# Altium integrated library Renesas Microprocessor SuperH.IntLib: 433 symbols (part 59 of 62)
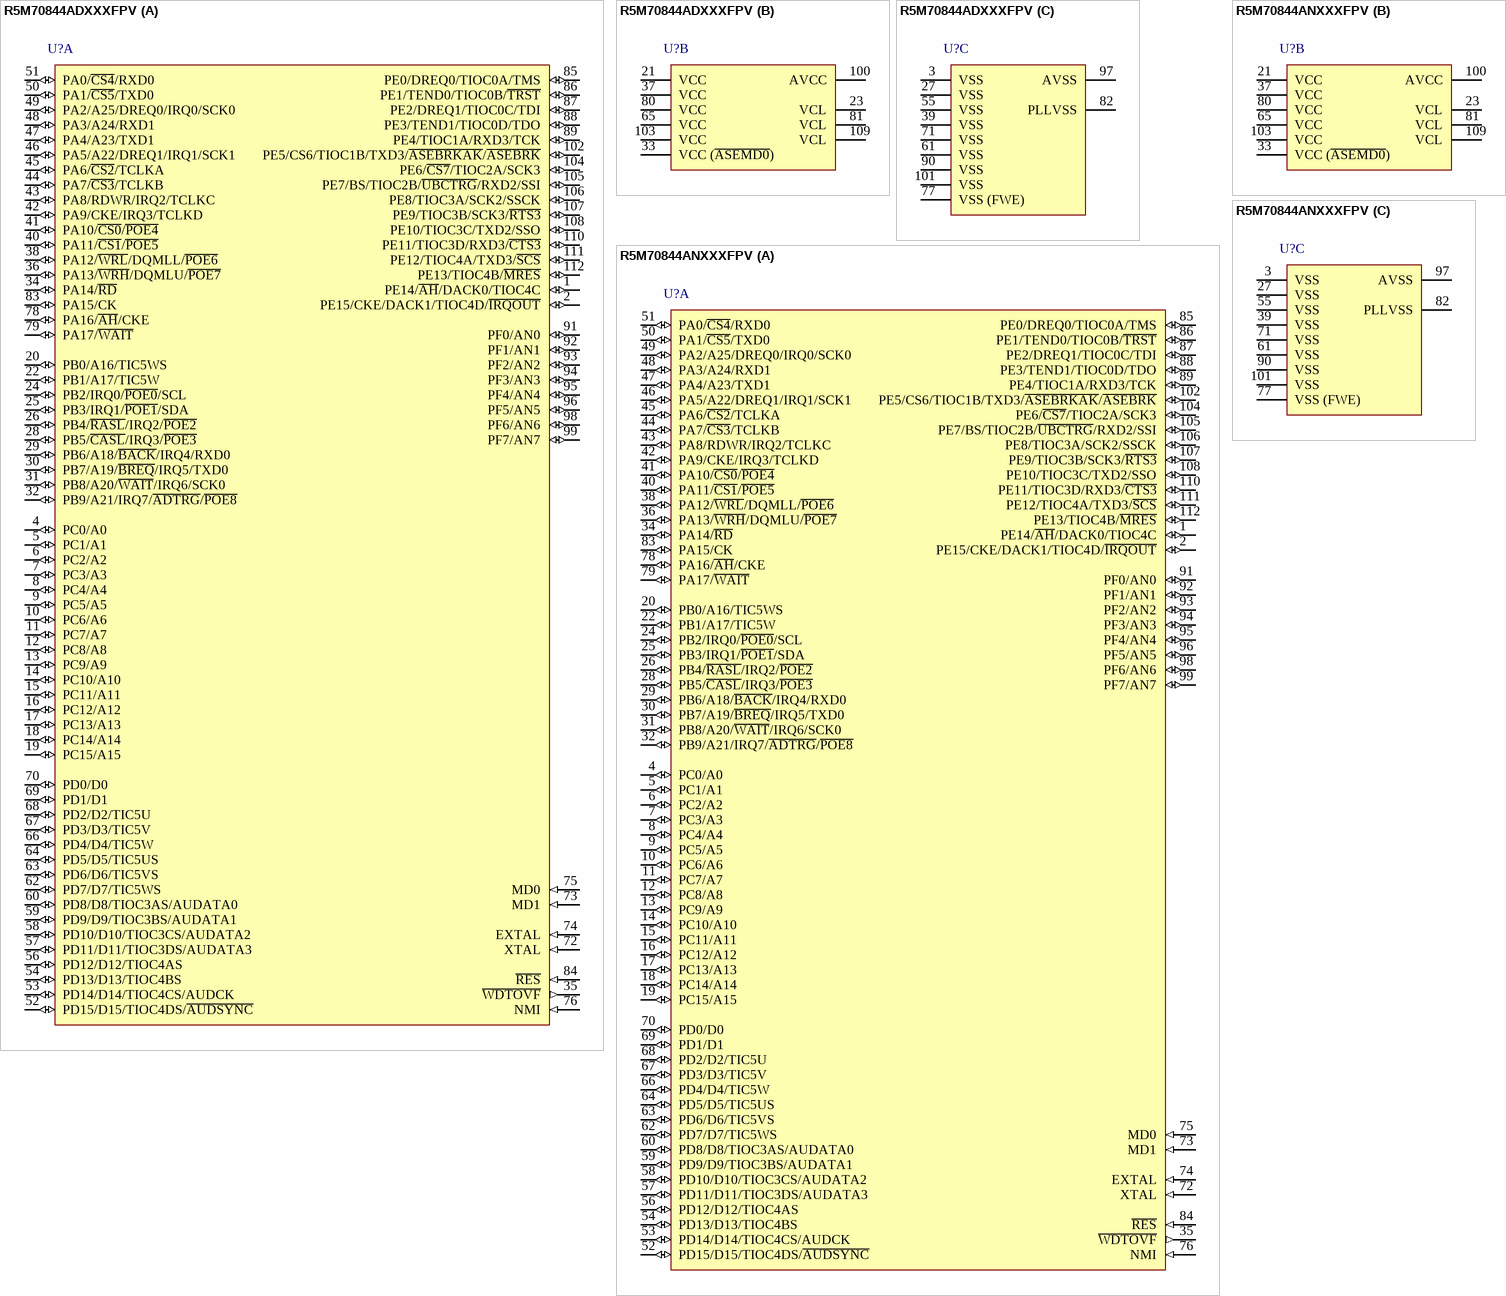
[diagram p315: symbols R5M70844ADXXXFPV to R5M70844ANXXXFPV]

## R5M70844ADXXXFPV
designator U?
32-Bit RISC Microcomputer, SH7080 Series, SH-2 core, 80MHz, 256K ROM, 16K RAM, PLQP0112JA-A (FP-112EV) Package, -40 to 85°C; Published: 28-Aug-2009; LatestRevisionDate: 15-Feb-2010; LatestRevisionNote: Updated to datasheet revision 4.00 Dec-2009.; DatasheetVersion: Rev.4.00, Dec-2009; PackageVersion: Sep-2005; PackageReference: PLQP0112JA-A; Publisher: Altium Limited; PackageDescription: 112-Pin Plastic Low Profile QFP, 20 x 20 x 1.4 mm Body, 0.65 mm Pitch; Code_JEITA: P-LQFP112-20x20-0.65; ComponentLink1Description: Manufacturer Link; ComponentLink1URL: http://www.renesas.com/fmwk.jsp?cnt=sh7080_root.jsp&fp=/products/mpumcu/superh_family/sh7080_series/sh7080_group/; ComponentLink2Description: Datasheet; ComponentLink2URL: http://documentation.renesas.com/eng/products/mpumcu/rej09b0181_sh7080.pdf; ComponentLink3Description: Packaging Specification; ComponentLink3URL: http://sg.renesas.com/media/products/common_info/package/pdf/ic/code/plqp0112ja_a.pdf
footprint PLQP0112JA-A_N (QFP, 112-Leads, Body 20x20mm, Pitch 0.65mm, IPC Medium Density)
footprint PLQP0112JA-A_L (QFP, 112-Leads, Body 20x20mm, Pitch 0.65mm, IPC High Density)
footprint PLQP0112JA-A_M (QFP, 112-Leads, Body 20x20mm, Pitch 0.65mm, IPC Low Density)
part A pins: 1 PE14/~{AH}/DACK0/TIOC4C (io), 2 PE15/CKE/DACK1/TIOC4D/~{IRQOUT} (io), 4 PC0/A0 (io), 5 PC1/A1 (io), 6 PC2/A2 (io), 7 PC3/A3 (io), 8 PC4/A4 (io), 9 PC5/A5 (io), 10 PC6/A6 (io), 11 PC7/A7 (io), 12 PC8/A8 (io), 13 PC9/A9 (io), 14 PC10/A10 (io), 15 PC11/A11 (io), 16 PC12/A12 (io), 17 PC13/A13 (io), 18 PC14/A14 (io), 19 PC15/A15 (io), 20 PB0/A16/TIC5WS (io), 22 PB1/A17/TIC5W (io), 24 PB2/IRQ0/~{POE0}/SCL (io), 25 PB3/IRQ1/~{POE1}/SDA (io), 26 PB4/~{RASL}/IRQ2/~{POE2} (io), 28 PB5/~{CASL}/IRQ3/~{POE3} (io), 29 PB6/A18/~{BACK}/IRQ4/RXD0 (io), 30 PB7/A19/~{BREQ}/IRQ5/TXD0 (io), 31 PB8/A20/~{WAIT}/IRQ6/SCK0 (io), 32 PB9/A21/IRQ7/~{ADTRG}/~{POE8} (io), 34 PA14/~{RD} (io), 35 ~{WDTOVF} (out), 36 PA13/~{WRH}/DQMLU/~{POE7} (io), 38 PA12/~{WRL}/DQMLL/~{POE6} (io), 40 PA11/~{CS1}/~{POE5} (io), 41 PA10/~{CS0}/~{POE4} (io), 42 PA9/CKE/IRQ3/TCLKD (io), 43 PA8/RDWR/IRQ2/TCLKC (io), 44 PA7/~{CS3}/TCLKB (io), 45 PA6/~{CS2}/TCLKA (io), 46 PA5/A22/DREQ1/IRQ1/SCK1 (io), 47 PA4/A23/TXD1 (io), 48 PA3/A24/RXD1 (io), 49 PA2/A25/DREQ0/IRQ0/SCK0 (io), 50 PA1/~{CS5}/TXD0 (io), 51 PA0/~{CS4}/RXD0 (io), 52 PD15/D15/TIOC4DS/~{AUDSYNC} (io), 53 PD14/D14/TIOC4CS/AUDCK (io), 54 PD13/D13/TIOC4BS (io), 56 PD12/D12/TIOC4AS (io), 57 PD11/D11/TIOC3DS/AUDATA3 (io), 58 PD10/D10/TIOC3CS/AUDATA2 (io), 59 PD9/D9/TIOC3BS/AUDATA1 (io), 60 PD8/D8/TIOC3AS/AUDATA0 (io), 62 PD7/D7/TIC5WS (io), 63 PD6/D6/TIC5VS (io), 64 PD5/D5/TIC5US (io), 66 PD4/D4/TIC5W (io), 67 PD3/D3/TIC5V (io), 68 PD2/D2/TIC5U (io), 69 PD1/D1 (io), 70 PD0/D0 (io), 72 XTAL (in), 73 MD1 (in), 74 EXTAL (in), 75 MD0 (in), 76 NMI (in), 78 PA16/~{AH}/CKE (io), 79 PA17/~{WAIT} (io), 83 PA15/CK (io), 84 ~{RES} (in), 85 PE0/DREQ0/TIOC0A/TMS (io), 86 PE1/TEND0/TIOC0B/~{TRST} (io), 87 PE2/DREQ1/TIOC0C/TDI (io), 88 PE3/TEND1/TIOC0D/TDO (io), 89 PE4/TIOC1A/RXD3/TCK (io), 91 PF0/AN0 (io), 92 PF1/AN1 (io), 93 PF2/AN2 (io), 94 PF3/AN3 (io), 95 PF4/AN4 (io), 96 PF5/AN5 (io), 98 PF6/AN6 (io), 99 PF7/AN7 (io), 102 PE5/CS6/TIOC1B/TXD3/~{ASEBRKAK}/~{ASEBRK} (io), 104 PE6/~{CS7}/TIOC2A/SCK3 (io), 105 PE7/BS/TIOC2B/~{UBCTRG}/RXD2/SSI (io), 106 PE8/TIOC3A/SCK2/SSCK (io), 107 PE9/TIOC3B/SCK3/~{RTS3} (io), 108 PE10/TIOC3C/TXD2/SSO (io), 110 PE11/TIOC3D/RXD3/~{CTS3} (io), 111 PE12/TIOC4A/TXD3/~{SCS} (io), 112 PE13/TIOC4B/~{MRES} (io)
part B pins: 21 VCC (power), 23 VCL (power), 33 VCC (~{ASEMD0}) (power), 37 VCC (power), 65 VCC (power), 80 VCC (power), 81 VCL (power), 100 AVCC (power), 103 VCC (power), 109 VCL (power)
part C pins: 3 VSS (power), 27 VSS (power), 39 VSS (power), 55 VSS (power), 61 VSS (power), 71 VSS (power), 77 VSS (FWE) (power), 82 PLLVSS (power), 90 VSS (power), 97 AVSS (power), 101 VSS (power)

## R5M70844ANXXXFPV
designator U?
32-Bit RISC Microcomputer, SH7080 Series, SH-2 core, 80MHz, 256K ROM, 16K RAM, PLQP0112JA-A (FP-112EV) Package, -20 to 85°C; Published: 28-Aug-2009; LatestRevisionDate: 15-Feb-2010; LatestRevisionNote: Updated to datasheet revision 4.00 Dec-2009.; DatasheetVersion: Rev.4.00, Dec-2009; PackageVersion: Sep-2005; PackageReference: PLQP0112JA-A; Publisher: Altium Limited; PackageDescription: 112-Pin Plastic Low Profile QFP, 20 x 20 x 1.4 mm Body, 0.65 mm Pitch; Code_JEITA: P-LQFP112-20x20-0.65; ComponentLink1Description: Manufacturer Link; ComponentLink1URL: http://www.renesas.com/fmwk.jsp?cnt=sh7080_root.jsp&fp=/products/mpumcu/superh_family/sh7080_series/sh7080_group/; ComponentLink2Description: Datasheet; ComponentLink2URL: http://documentation.renesas.com/eng/products/mpumcu/rej09b0181_sh7080.pdf; ComponentLink3Description: Packaging Specification; ComponentLink3URL: http://sg.renesas.com/media/products/common_info/package/pdf/ic/code/plqp0112ja_a.pdf
footprint PLQP0112JA-A_N (QFP, 112-Leads, Body 20x20mm, Pitch 0.65mm, IPC Medium Density)
footprint PLQP0112JA-A_L (QFP, 112-Leads, Body 20x20mm, Pitch 0.65mm, IPC High Density)
footprint PLQP0112JA-A_M (QFP, 112-Leads, Body 20x20mm, Pitch 0.65mm, IPC Low Density)
part A pins: 1 PE14/~{AH}/DACK0/TIOC4C (io), 2 PE15/CKE/DACK1/TIOC4D/~{IRQOUT} (io), 4 PC0/A0 (io), 5 PC1/A1 (io), 6 PC2/A2 (io), 7 PC3/A3 (io), 8 PC4/A4 (io), 9 PC5/A5 (io), 10 PC6/A6 (io), 11 PC7/A7 (io), 12 PC8/A8 (io), 13 PC9/A9 (io), 14 PC10/A10 (io), 15 PC11/A11 (io), 16 PC12/A12 (io), 17 PC13/A13 (io), 18 PC14/A14 (io), 19 PC15/A15 (io), 20 PB0/A16/TIC5WS (io), 22 PB1/A17/TIC5W (io), 24 PB2/IRQ0/~{POE0}/SCL (io), 25 PB3/IRQ1/~{POE1}/SDA (io), 26 PB4/~{RASL}/IRQ2/~{POE2} (io), 28 PB5/~{CASL}/IRQ3/~{POE3} (io), 29 PB6/A18/~{BACK}/IRQ4/RXD0 (io), 30 PB7/A19/~{BREQ}/IRQ5/TXD0 (io), 31 PB8/A20/~{WAIT}/IRQ6/SCK0 (io), 32 PB9/A21/IRQ7/~{ADTRG}/~{POE8} (io), 34 PA14/~{RD} (io), 35 ~{WDTOVF} (out), 36 PA13/~{WRH}/DQMLU/~{POE7} (io), 38 PA12/~{WRL}/DQMLL/~{POE6} (io), 40 PA11/~{CS1}/~{POE5} (io), 41 PA10/~{CS0}/~{POE4} (io), 42 PA9/CKE/IRQ3/TCLKD (io), 43 PA8/RDWR/IRQ2/TCLKC (io), 44 PA7/~{CS3}/TCLKB (io), 45 PA6/~{CS2}/TCLKA (io), 46 PA5/A22/DREQ1/IRQ1/SCK1 (io), 47 PA4/A23/TXD1 (io), 48 PA3/A24/RXD1 (io), 49 PA2/A25/DREQ0/IRQ0/SCK0 (io), 50 PA1/~{CS5}/TXD0 (io), 51 PA0/~{CS4}/RXD0 (io), 52 PD15/D15/TIOC4DS/~{AUDSYNC} (io), 53 PD14/D14/TIOC4CS/AUDCK (io), 54 PD13/D13/TIOC4BS (io), 56 PD12/D12/TIOC4AS (io), 57 PD11/D11/TIOC3DS/AUDATA3 (io), 58 PD10/D10/TIOC3CS/AUDATA2 (io), 59 PD9/D9/TIOC3BS/AUDATA1 (io), 60 PD8/D8/TIOC3AS/AUDATA0 (io), 62 PD7/D7/TIC5WS (io), 63 PD6/D6/TIC5VS (io), 64 PD5/D5/TIC5US (io), 66 PD4/D4/TIC5W (io), 67 PD3/D3/TIC5V (io), 68 PD2/D2/TIC5U (io), 69 PD1/D1 (io), 70 PD0/D0 (io), 72 XTAL (in), 73 MD1 (in), 74 EXTAL (in), 75 MD0 (in), 76 NMI (in), 78 PA16/~{AH}/CKE (io), 79 PA17/~{WAIT} (io), 83 PA15/CK (io), 84 ~{RES} (in), 85 PE0/DREQ0/TIOC0A/TMS (io), 86 PE1/TEND0/TIOC0B/~{TRST} (io), 87 PE2/DREQ1/TIOC0C/TDI (io), 88 PE3/TEND1/TIOC0D/TDO (io), 89 PE4/TIOC1A/RXD3/TCK (io), 91 PF0/AN0 (io), 92 PF1/AN1 (io), 93 PF2/AN2 (io), 94 PF3/AN3 (io), 95 PF4/AN4 (io), 96 PF5/AN5 (io), 98 PF6/AN6 (io), 99 PF7/AN7 (io), 102 PE5/CS6/TIOC1B/TXD3/~{ASEBRKAK}/~{ASEBRK} (io), 104 PE6/~{CS7}/TIOC2A/SCK3 (io), 105 PE7/BS/TIOC2B/~{UBCTRG}/RXD2/SSI (io), 106 PE8/TIOC3A/SCK2/SSCK (io), 107 PE9/TIOC3B/SCK3/~{RTS3} (io), 108 PE10/TIOC3C/TXD2/SSO (io), 110 PE11/TIOC3D/RXD3/~{CTS3} (io), 111 PE12/TIOC4A/TXD3/~{SCS} (io), 112 PE13/TIOC4B/~{MRES} (io)
part B pins: 21 VCC (power), 23 VCL (power), 33 VCC (~{ASEMD0}) (power), 37 VCC (power), 65 VCC (power), 80 VCC (power), 81 VCL (power), 100 AVCC (power), 103 VCC (power), 109 VCL (power)
part C pins: 3 VSS (power), 27 VSS (power), 39 VSS (power), 55 VSS (power), 61 VSS (power), 71 VSS (power), 77 VSS (FWE) (power), 82 PLLVSS (power), 90 VSS (power), 97 AVSS (power), 101 VSS (power)

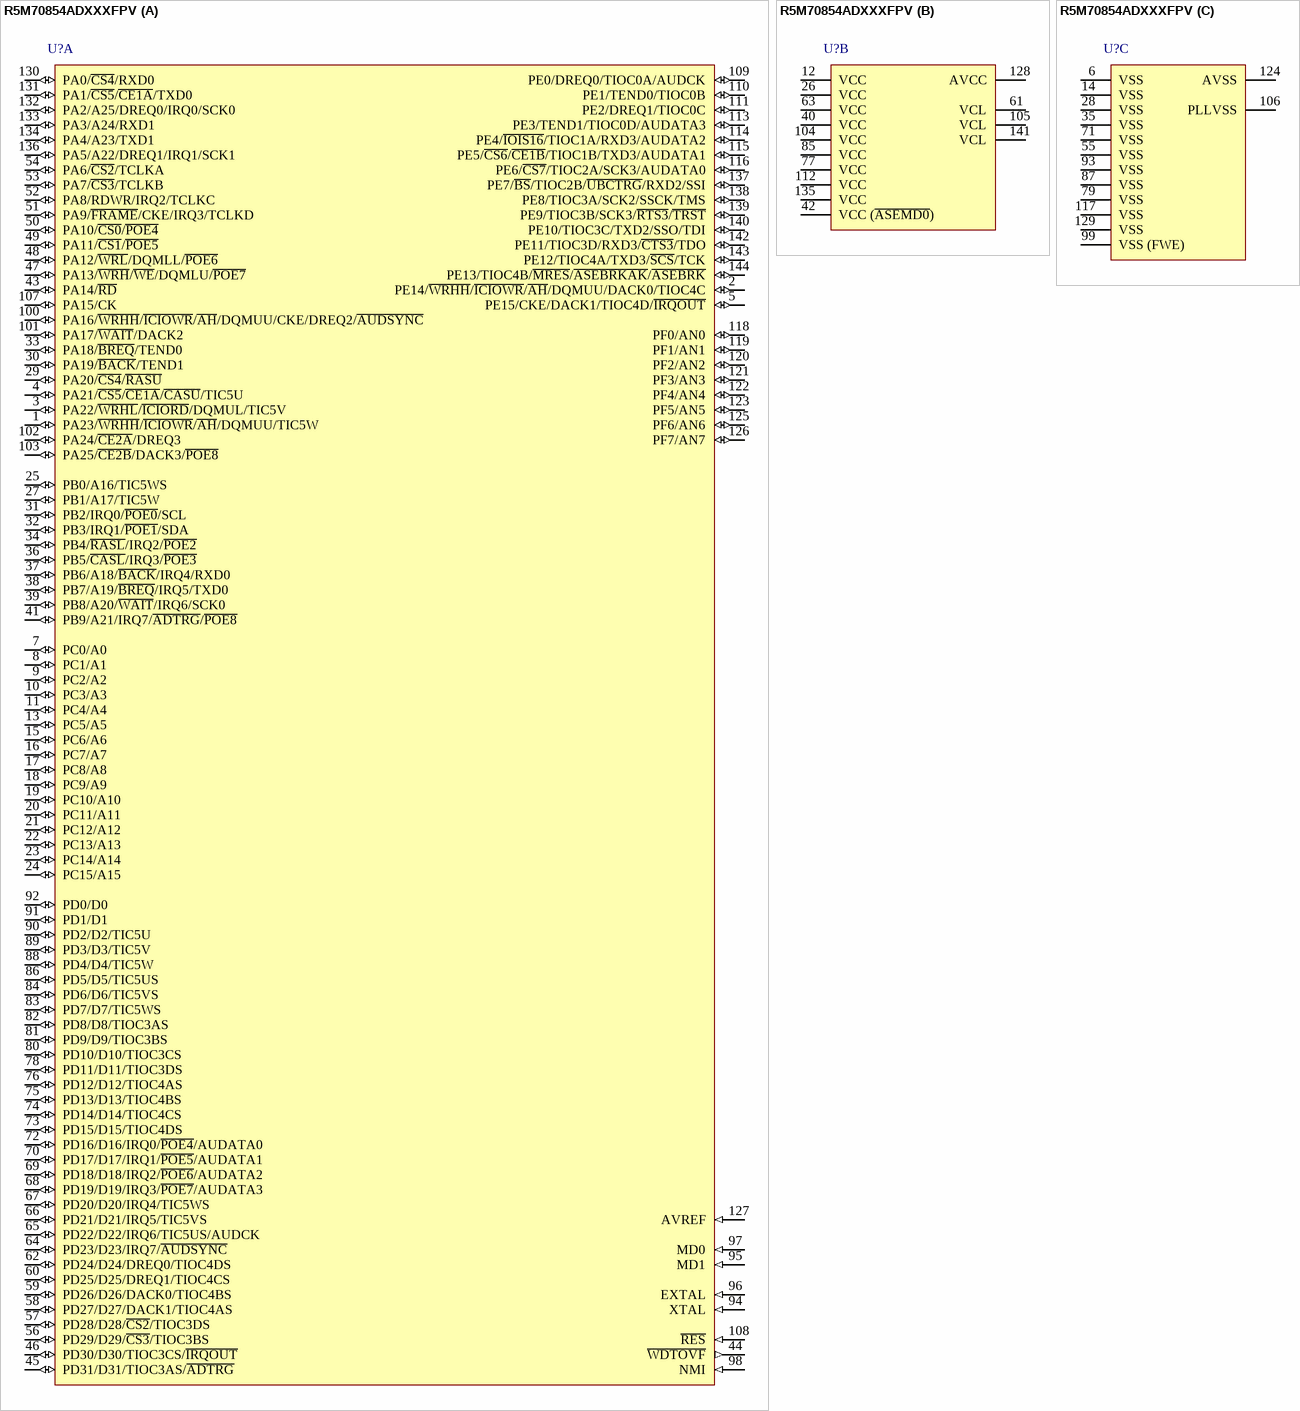
[diagram p197: symbol R5M70854ADXXXFPV]

## R5M70854ADXXXFPV
designator U?
32-Bit RISC Microcomputer, SH7080 Series, SH-2 core, 80MHz, 256K ROM, 16K RAM, 144-pin PLQFP, -40 to 85°C; Published: 28-Aug-2009; LatestRevisionDate: 15-Feb-2010; LatestRevisionNote: Updated to datasheet revision 4.00 Dec-2009.; DatasheetVersion: Rev.4.00, Dec-2009; PackageVersion: Sep-2005; PackageReference: PLQP0144KA-A; Publisher: Altium Limited; PackageDescription: 144-Pin Plastic Low Profile QFP, 20 x 20 x 1.4 mm Body, 0.5 mm Pitch; Code_JEITA: P-LQFP144-20x20-0.50; Code_IPC: SQFP50P2200X2200-144; ComponentLink1Description: Manufacturer Link; ComponentLink1URL: http://www.renesas.com/fmwk.jsp?cnt=sh7080_root.jsp&fp=/products/mpumcu/superh_family/sh7080_series/sh7080_group/; ComponentLink2Description: Datasheet; ComponentLink2URL: http://documentation.renesas.com/eng/products/mpumcu/rej09b0181_sh7080.pdf; ComponentLink3Description: Packaging Specification; ComponentLink3URL: http://sg.renesas.com/media/products/common_info/package/pdf/ic/code/plqp0144ka_a.pdf
footprint PLQP0144KA-A_N (Shrink QFP, 144-Leads, Body 20x20mm, Pitch 0.5mm, IPC Medium Density)
footprint PLQP0144KA-A_L (Shrink QFP, 144-Leads, Body 20x20mm, Pitch 0.5mm, IPC High Density)
footprint PLQP0144KA-A_M (Shrink QFP, 144-Leads, Body 20x20mm, Pitch 0.5mm, IPC Low Density)
part A pins: 1 PA23/~{WRHH}/~{ICIOWR}/~{AH}/DQMUU/TIC5W (io), 2 PE14/~{WRHH}/~{ICIOWR}/~{AH}/DQMUU/DACK0/TIOC4C (io), 3 PA22/~{WRHL}/~{ICIORD}/DQMUL/TIC5V (io), 4 PA21/~{CS5}/~{CE1A}/~{CASU}/TIC5U (io), 5 PE15/CKE/DACK1/TIOC4D/~{IRQOUT} (io), 7 PC0/A0 (io), 8 PC1/A1 (io), 9 PC2/A2 (io), 10 PC3/A3 (io), 11 PC4/A4 (io), 13 PC5/A5 (io), 15 PC6/A6 (io), 16 PC7/A7 (io), 17 PC8/A8 (io), 18 PC9/A9 (io), 19 PC10/A10 (io), 20 PC11/A11 (io), 21 PC12/A12 (io), 22 PC13/A13 (io), 23 PC14/A14 (io), 24 PC15/A15 (io), 25 PB0/A16/TIC5WS (io), 27 PB1/A17/TIC5W (io), 29 PA20/~{CS4}/~{RASU} (io), 30 PA19/~{BACK}/TEND1 (io), 31 PB2/IRQ0/~{POE0}/SCL (io), 32 PB3/IRQ1/~{POE1}/SDA (io), 33 PA18/~{BREQ}/TEND0 (io), 34 PB4/~{RASL}/IRQ2/~{POE2} (io), 36 PB5/~{CASL}/IRQ3/~{POE3} (io), 37 PB6/A18/~{BACK}/IRQ4/RXD0 (io), 38 PB7/A19/~{BREQ}/IRQ5/TXD0 (io), 39 PB8/A20/~{WAIT}/IRQ6/SCK0 (io), 41 PB9/A21/IRQ7/~{ADTRG}/~{POE8} (io), 43 PA14/~{RD} (io), 44 ~{WDTOVF} (out), 45 PD31/D31/TIOC3AS/~{ADTRG} (io), 46 PD30/D30/TIOC3CS/~{IRQOUT} (io), 47 PA13/~{WRH}/~{WE}/DQMLU/~{POE7} (io), 48 PA12/~{WRL}/DQMLL/~{POE6} (io), 49 PA11/~{CS1}/~{POE5} (io), 50 PA10/~{CS0}/~{POE4} (io), 51 PA9/~{FRAME}/CKE/IRQ3/TCLKD (io), 52 PA8/RDWR/IRQ2/TCLKC (io), 53 PA7/~{CS3}/TCLKB (io), 54 PA6/~{CS2}/TCLKA (io), 56 PD29/D29/~{CS3}/TIOC3BS (io), 57 PD28/D28/~{CS2}/TIOC3DS (io), 58 PD27/D27/DACK1/TIOC4AS (io), 59 PD26/D26/DACK0/TIOC4BS (io), 60 PD25/D25/DREQ1/TIOC4CS (io), 62 PD24/D24/DREQ0/TIOC4DS (io), 64 PD23/D23/IRQ7/~{AUDSYNC} (io), 65 PD22/D22/IRQ6/TIC5US/AUDCK (io), 66 PD21/D21/IRQ5/TIC5VS (io), 67 PD20/D20/IRQ4/TIC5WS (io), 68 PD19/D19/IRQ3/~{POE7}/AUDATA3 (io), 69 PD18/D18/IRQ2/~{POE6}/AUDATA2 (io), 70 PD17/D17/IRQ1/~{POE5}/AUDATA1 (io), 72 PD16/D16/IRQ0/~{POE4}/AUDATA0 (io), 73 PD15/D15/TIOC4DS (io), 74 PD14/D14/TIOC4CS (io), 75 PD13/D13/TIOC4BS (io), 76 PD12/D12/TIOC4AS (io), 78 PD11/D11/TIOC3DS (io), 80 PD10/D10/TIOC3CS (io), 81 PD9/D9/TIOC3BS (io), 82 PD8/D8/TIOC3AS (io), 83 PD7/D7/TIC5WS (io), 84 PD6/D6/TIC5VS (io), 86 PD5/D5/TIC5US (io), 88 PD4/D4/TIC5W (io), 89 PD3/D3/TIC5V (io), 90 PD2/D2/TIC5U (io), 91 PD1/D1 (io), 92 PD0/D0 (io), 94 XTAL (in), 95 MD1 (in), 96 EXTAL (in), 97 MD0 (in), 98 NMI (in), 100 PA16/~{WRHH}/~{ICIOWR}/~{AH}/DQMUU/CKE/DREQ2/~{AUDSYNC} (io), 101 PA17/~{WAIT}/DACK2 (io), 102 PA24/~{CE2A}/DREQ3 (io), 103 PA25/~{CE2B}/DACK3/~{POE8} (io), 107 PA15/CK (io), 108 ~{RES} (in), 109 PE0/DREQ0/TIOC0A/AUDCK (io), 110 PE1/TEND0/TIOC0B (io), 111 PE2/DREQ1/TIOC0C (io), 113 PE3/TEND1/TIOC0D/AUDATA3 (io), 114 PE4/~{IOIS16}/TIOC1A/RXD3/AUDATA2 (io), 115 PE5/~{CS6}/~{CE1B}/TIOC1B/TXD3/AUDATA1 (io), 116 PE6/~{CS7}/TIOC2A/SCK3/AUDATA0 (io), 118 PF0/AN0 (io), 119 PF1/AN1 (io), 120 PF2/AN2 (io), 121 PF3/AN3 (io), 122 PF4/AN4 (io), 123 PF5/AN5 (io), 125 PF6/AN6 (io), 126 PF7/AN7 (io), 127 AVREF (in), 130 PA0/~{CS4}/RXD0 (io), 131 PA1/~{CS5}/~{CE1A}/TXD0 (io), 132 PA2/A25/DREQ0/IRQ0/SCK0 (io), 133 PA3/A24/RXD1 (io), 134 PA4/A23/TXD1 (io), 136 PA5/A22/DREQ1/IRQ1/SCK1 (io), 137 PE7/~{BS}/TIOC2B/~{UBCTRG}/RXD2/SSI (io), 138 PE8/TIOC3A/SCK2/SSCK/TMS (io), 139 PE9/TIOC3B/SCK3/~{RTS3}/~{TRST} (io), 140 PE10/TIOC3C/TXD2/SSO/TDI (io), 142 PE11/TIOC3D/RXD3/~{CTS3}/TDO (io), 143 PE12/TIOC4A/TXD3/~{SCS}/TCK (io), 144 PE13/TIOC4B/~{MRES}/~{ASEBRKAK}/~{ASEBRK} (io)
part B pins: 12 VCC (power), 26 VCC (power), 40 VCC (power), 42 VCC (~{ASEMD0}) (power), 61 VCL (power), 63 VCC (power), 77 VCC (power), 85 VCC (power), 104 VCC (power), 105 VCL (power), 112 VCC (power), 128 AVCC (power), 135 VCC (power), 141 VCL (power)
part C pins: 6 VSS (power), 14 VSS (power), 28 VSS (power), 35 VSS (power), 55 VSS (power), 71 VSS (power), 79 VSS (power), 87 VSS (power), 93 VSS (power), 99 VSS (FWE) (power), 106 PLLVSS (power), 117 VSS (power), 124 AVSS (power), 129 VSS (power)

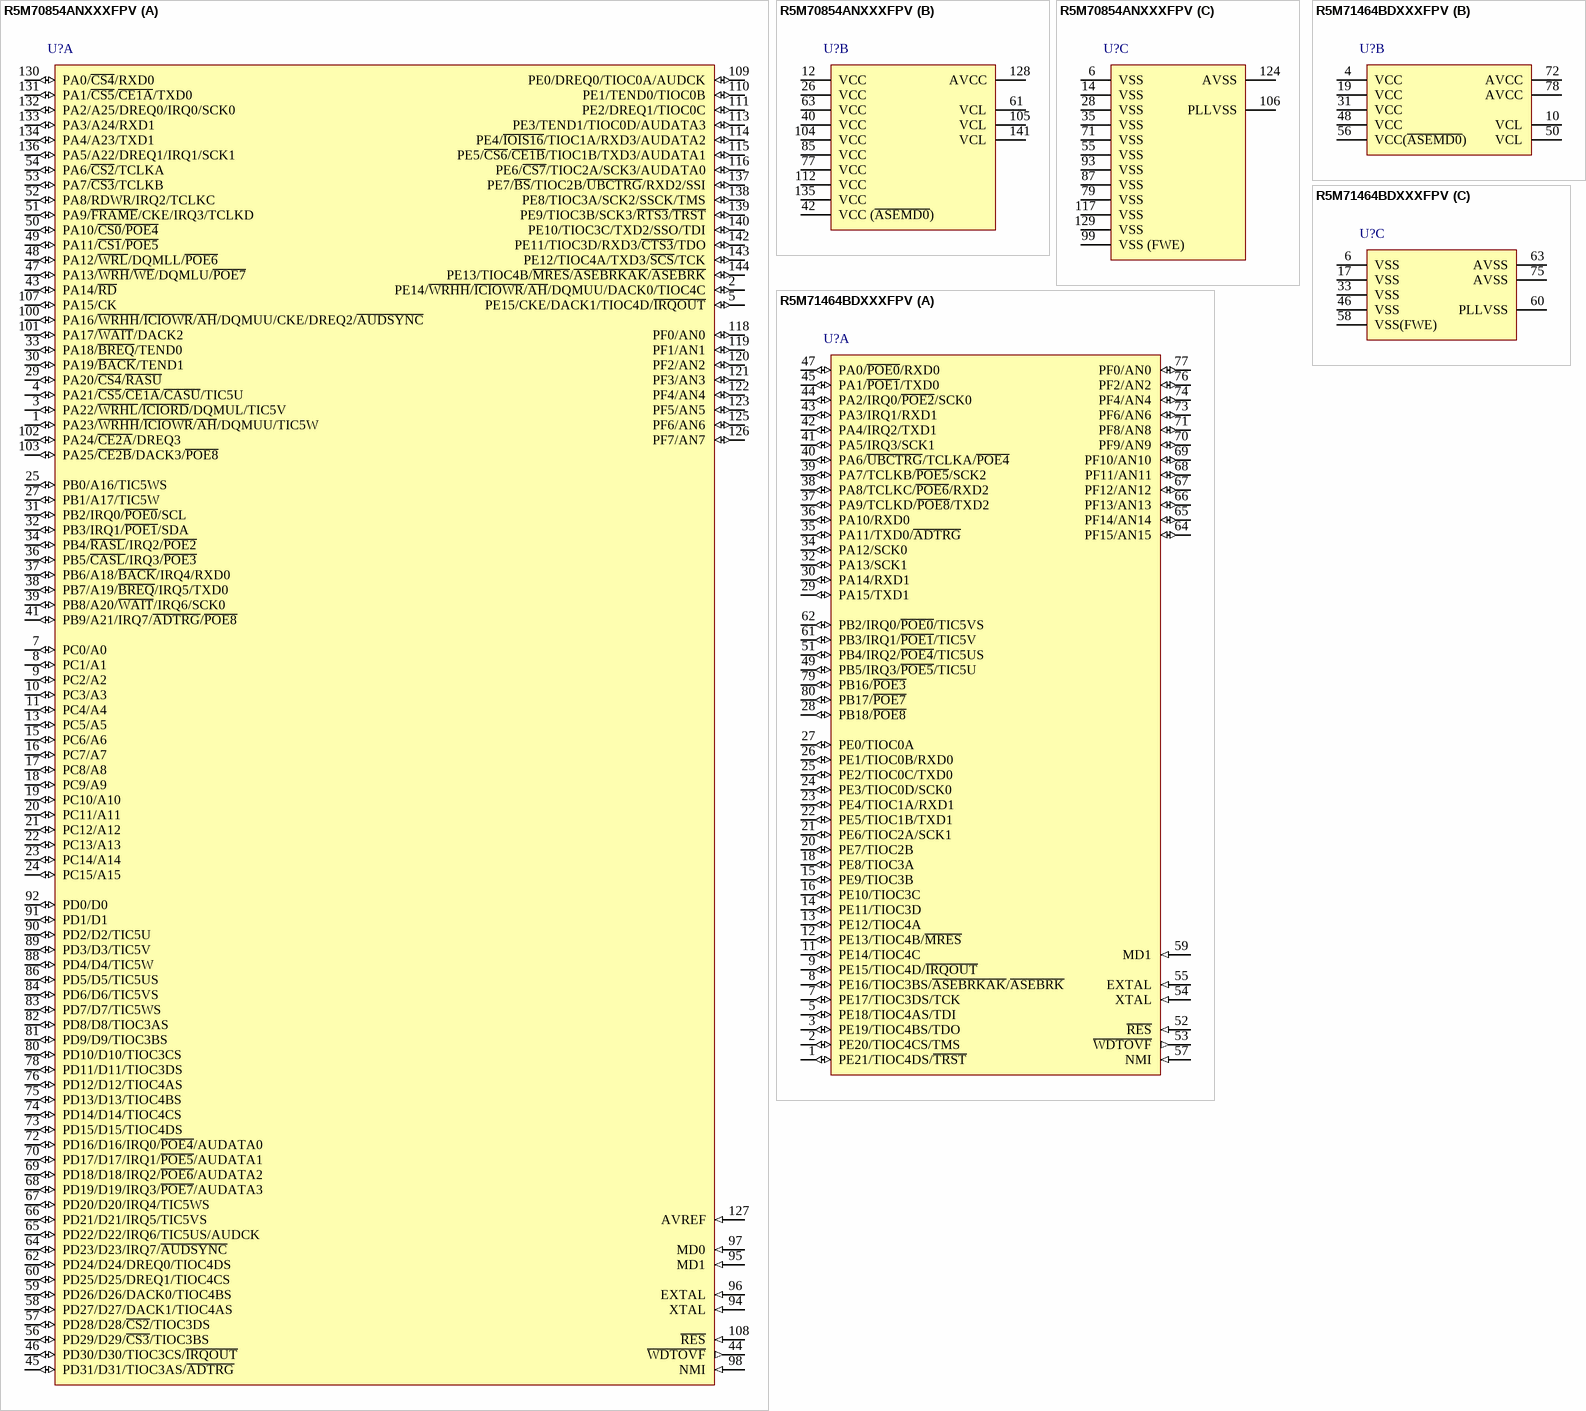
[diagram p198: symbols R5M70854ANXXXFPV to R5M71464BDXXXFPV]

## R5M70854ANXXXFPV
designator U?
32-Bit RISC Microcomputer, SH7080 Series, SH-2 core, 80MHz, 256K ROM, 16K RAM, 144-pin PLQFP, -20 to 85°C; Published: 28-Aug-2009; LatestRevisionDate: 15-Feb-2010; LatestRevisionNote: Updated to datasheet revision 4.00 Dec-2009.; DatasheetVersion: Rev.4.00, Dec-2009; PackageVersion: Sep-2005; PackageReference: PLQP0144KA-A; Publisher: Altium Limited; PackageDescription: 144-Pin Plastic Low Profile QFP, 20 x 20 x 1.4 mm Body, 0.5 mm Pitch; Code_JEITA: P-LQFP144-20x20-0.50; Code_IPC: SQFP50P2200X2200-144; ComponentLink1Description: Manufacturer Link; ComponentLink1URL: http://www.renesas.com/fmwk.jsp?cnt=sh7080_root.jsp&fp=/products/mpumcu/superh_family/sh7080_series/sh7080_group/; ComponentLink2Description: Datasheet; ComponentLink2URL: http://documentation.renesas.com/eng/products/mpumcu/rej09b0181_sh7080.pdf; ComponentLink3Description: Packaging Specification; ComponentLink3URL: http://sg.renesas.com/media/products/common_info/package/pdf/ic/code/plqp0144ka_a.pdf
footprint PLQP0144KA-A_N (Shrink QFP, 144-Leads, Body 20x20mm, Pitch 0.5mm, IPC Medium Density)
footprint PLQP0144KA-A_L (Shrink QFP, 144-Leads, Body 20x20mm, Pitch 0.5mm, IPC High Density)
footprint PLQP0144KA-A_M (Shrink QFP, 144-Leads, Body 20x20mm, Pitch 0.5mm, IPC Low Density)
part A pins: 1 PA23/~{WRHH}/~{ICIOWR}/~{AH}/DQMUU/TIC5W (io), 2 PE14/~{WRHH}/~{ICIOWR}/~{AH}/DQMUU/DACK0/TIOC4C (io), 3 PA22/~{WRHL}/~{ICIORD}/DQMUL/TIC5V (io), 4 PA21/~{CS5}/~{CE1A}/~{CASU}/TIC5U (io), 5 PE15/CKE/DACK1/TIOC4D/~{IRQOUT} (io), 7 PC0/A0 (io), 8 PC1/A1 (io), 9 PC2/A2 (io), 10 PC3/A3 (io), 11 PC4/A4 (io), 13 PC5/A5 (io), 15 PC6/A6 (io), 16 PC7/A7 (io), 17 PC8/A8 (io), 18 PC9/A9 (io), 19 PC10/A10 (io), 20 PC11/A11 (io), 21 PC12/A12 (io), 22 PC13/A13 (io), 23 PC14/A14 (io), 24 PC15/A15 (io), 25 PB0/A16/TIC5WS (io), 27 PB1/A17/TIC5W (io), 29 PA20/~{CS4}/~{RASU} (io), 30 PA19/~{BACK}/TEND1 (io), 31 PB2/IRQ0/~{POE0}/SCL (io), 32 PB3/IRQ1/~{POE1}/SDA (io), 33 PA18/~{BREQ}/TEND0 (io), 34 PB4/~{RASL}/IRQ2/~{POE2} (io), 36 PB5/~{CASL}/IRQ3/~{POE3} (io), 37 PB6/A18/~{BACK}/IRQ4/RXD0 (io), 38 PB7/A19/~{BREQ}/IRQ5/TXD0 (io), 39 PB8/A20/~{WAIT}/IRQ6/SCK0 (io), 41 PB9/A21/IRQ7/~{ADTRG}/~{POE8} (io), 43 PA14/~{RD} (io), 44 ~{WDTOVF} (out), 45 PD31/D31/TIOC3AS/~{ADTRG} (io), 46 PD30/D30/TIOC3CS/~{IRQOUT} (io), 47 PA13/~{WRH}/~{WE}/DQMLU/~{POE7} (io), 48 PA12/~{WRL}/DQMLL/~{POE6} (io), 49 PA11/~{CS1}/~{POE5} (io), 50 PA10/~{CS0}/~{POE4} (io), 51 PA9/~{FRAME}/CKE/IRQ3/TCLKD (io), 52 PA8/RDWR/IRQ2/TCLKC (io), 53 PA7/~{CS3}/TCLKB (io), 54 PA6/~{CS2}/TCLKA (io), 56 PD29/D29/~{CS3}/TIOC3BS (io), 57 PD28/D28/~{CS2}/TIOC3DS (io), 58 PD27/D27/DACK1/TIOC4AS (io), 59 PD26/D26/DACK0/TIOC4BS (io), 60 PD25/D25/DREQ1/TIOC4CS (io), 62 PD24/D24/DREQ0/TIOC4DS (io), 64 PD23/D23/IRQ7/~{AUDSYNC} (io), 65 PD22/D22/IRQ6/TIC5US/AUDCK (io), 66 PD21/D21/IRQ5/TIC5VS (io), 67 PD20/D20/IRQ4/TIC5WS (io), 68 PD19/D19/IRQ3/~{POE7}/AUDATA3 (io), 69 PD18/D18/IRQ2/~{POE6}/AUDATA2 (io), 70 PD17/D17/IRQ1/~{POE5}/AUDATA1 (io), 72 PD16/D16/IRQ0/~{POE4}/AUDATA0 (io), 73 PD15/D15/TIOC4DS (io), 74 PD14/D14/TIOC4CS (io), 75 PD13/D13/TIOC4BS (io), 76 PD12/D12/TIOC4AS (io), 78 PD11/D11/TIOC3DS (io), 80 PD10/D10/TIOC3CS (io), 81 PD9/D9/TIOC3BS (io), 82 PD8/D8/TIOC3AS (io), 83 PD7/D7/TIC5WS (io), 84 PD6/D6/TIC5VS (io), 86 PD5/D5/TIC5US (io), 88 PD4/D4/TIC5W (io), 89 PD3/D3/TIC5V (io), 90 PD2/D2/TIC5U (io), 91 PD1/D1 (io), 92 PD0/D0 (io), 94 XTAL (in), 95 MD1 (in), 96 EXTAL (in), 97 MD0 (in), 98 NMI (in), 100 PA16/~{WRHH}/~{ICIOWR}/~{AH}/DQMUU/CKE/DREQ2/~{AUDSYNC} (io), 101 PA17/~{WAIT}/DACK2 (io), 102 PA24/~{CE2A}/DREQ3 (io), 103 PA25/~{CE2B}/DACK3/~{POE8} (io), 107 PA15/CK (io), 108 ~{RES} (in), 109 PE0/DREQ0/TIOC0A/AUDCK (io), 110 PE1/TEND0/TIOC0B (io), 111 PE2/DREQ1/TIOC0C (io), 113 PE3/TEND1/TIOC0D/AUDATA3 (io), 114 PE4/~{IOIS16}/TIOC1A/RXD3/AUDATA2 (io), 115 PE5/~{CS6}/~{CE1B}/TIOC1B/TXD3/AUDATA1 (io), 116 PE6/~{CS7}/TIOC2A/SCK3/AUDATA0 (io), 118 PF0/AN0 (io), 119 PF1/AN1 (io), 120 PF2/AN2 (io), 121 PF3/AN3 (io), 122 PF4/AN4 (io), 123 PF5/AN5 (io), 125 PF6/AN6 (io), 126 PF7/AN7 (io), 127 AVREF (in), 130 PA0/~{CS4}/RXD0 (io), 131 PA1/~{CS5}/~{CE1A}/TXD0 (io), 132 PA2/A25/DREQ0/IRQ0/SCK0 (io), 133 PA3/A24/RXD1 (io), 134 PA4/A23/TXD1 (io), 136 PA5/A22/DREQ1/IRQ1/SCK1 (io), 137 PE7/~{BS}/TIOC2B/~{UBCTRG}/RXD2/SSI (io), 138 PE8/TIOC3A/SCK2/SSCK/TMS (io), 139 PE9/TIOC3B/SCK3/~{RTS3}/~{TRST} (io), 140 PE10/TIOC3C/TXD2/SSO/TDI (io), 142 PE11/TIOC3D/RXD3/~{CTS3}/TDO (io), 143 PE12/TIOC4A/TXD3/~{SCS}/TCK (io), 144 PE13/TIOC4B/~{MRES}/~{ASEBRKAK}/~{ASEBRK} (io)
part B pins: 12 VCC (power), 26 VCC (power), 40 VCC (power), 42 VCC (~{ASEMD0}) (power), 61 VCL (power), 63 VCC (power), 77 VCC (power), 85 VCC (power), 104 VCC (power), 105 VCL (power), 112 VCC (power), 128 AVCC (power), 135 VCC (power), 141 VCL (power)
part C pins: 6 VSS (power), 14 VSS (power), 28 VSS (power), 35 VSS (power), 55 VSS (power), 71 VSS (power), 79 VSS (power), 87 VSS (power), 93 VSS (power), 99 VSS (FWE) (power), 106 PLLVSS (power), 117 VSS (power), 124 AVSS (power), 129 VSS (power)

## R5M71464BDXXXFPV
designator U?
32-Bit RISC Microcomputer, SH7146 Series, SH-2 core, 80MHz, 256K ROM, 8K RAM, PLQP0080JA-A (FP-80WV) Package, -40 to 85°C; Published: 28-Aug-2009; DatasheetVersion: Rev.3.00, May-2007; PackageVersion: Sep-2005; PackageReference: PLQP0080JA-A; Publisher: Altium Limited; PackageDescription: 80-Pin Plastic Low Profile QFP, 14 x 14 x 1.4 mm Body, 0.65 mm Pitch; Code_JEITA: P-LQFP80-14x14-0.65; ComponentLink1Description: Manufacturer Link; ComponentLink1URL: http://www.renesas.com/fmwk.jsp?cnt=sh7146_root.jsp&fp=/products/mpumcu/superh_family/sh7146_series/sh7146_group/; ComponentLink2Description: Datasheet; ComponentLink2URL: http://documentation.renesas.com/eng/products/mpumcu/rej09b0229_sh7146hm.pdf; ComponentLink3Description: Packaging Specification; ComponentLink3URL: http://sg.renesas.com/media/products/common_info/package/pdf/ic/code/plqp0080ja_a.pdf
footprint PLQP0080JA-A_N (QFP, 80-Leads, Body 14x14mm, Pitch 0.65mm, IPC Medium Density)
footprint PLQP0080JA-A_L (QFP, 80-Leads, Body 14x14mm, Pitch 0.65mm, IPC High Density)
footprint PLQP0080JA-A_M (QFP, 80-Leads, Body 14x14mm, Pitch 0.65mm, IPC Low Density)
part A pins: 1 PE21/TIOC4DS/~{TRST} (io), 2 PE20/TIOC4CS/TMS (io), 3 PE19/TIOC4BS/TDO (io), 5 PE18/TIOC4AS/TDI (io), 7 PE17/TIOC3DS/TCK (io), 8 PE16/TIOC3BS/~{ASEBRKAK}/~{ASEBRK} (io), 9 PE15/TIOC4D/~{IRQOUT} (io), 11 PE14/TIOC4C (io), 12 PE13/TIOC4B/~{MRES} (io), 13 PE12/TIOC4A (io), 14 PE11/TIOC3D (io), 15 PE9/TIOC3B (io), 16 PE10/TIOC3C (io), 18 PE8/TIOC3A (io), 20 PE7/TIOC2B (io), 21 PE6/TIOC2A/SCK1 (io), 22 PE5/TIOC1B/TXD1 (io), 23 PE4/TIOC1A/RXD1 (io), 24 PE3/TIOC0D/SCK0 (io), 25 PE2/TIOC0C/TXD0 (io), 26 PE1/TIOC0B/RXD0 (io), 27 PE0/TIOC0A (io), 28 PB18/~{POE8} (io), 29 PA15/TXD1 (io), 30 PA14/RXD1 (io), 32 PA13/SCK1 (io), 34 PA12/SCK0 (io), 35 PA11/TXD0/~{ADTRG} (io), 36 PA10/RXD0 (io), 37 PA9/TCLKD/~{POE8}/TXD2 (io), 38 PA8/TCLKC/~{POE6}/RXD2 (io), 39 PA7/TCLKB/~{POE5}/SCK2 (io), 40 PA6/~{UBCTRG}/TCLKA/~{POE4} (io), 41 PA5/IRQ3/SCK1 (io), 42 PA4/IRQ2/TXD1 (io), 43 PA3/IRQ1/RXD1 (io), 44 PA2/IRQ0/~{POE2}/SCK0 (io), 45 PA1/~{POE1}/TXD0 (io), 47 PA0/~{POE0}/RXD0 (io), 49 PB5/IRQ3/~{POE5}/TIC5U (io), 51 PB4/IRQ2/~{POE4}/TIC5US (io), 52 ~{RES} (in), 53 ~{WDTOVF} (out), 54 XTAL (in), 55 EXTAL (in), 57 NMI (in), 59 MD1 (in), 61 PB3/IRQ1/~{POE1}/TIC5V (io), 62 PB2/IRQ0/~{POE0}/TIC5VS (io), 64 PF15/AN15 (io), 65 PF14/AN14 (io), 66 PF13/AN13 (io), 67 PF12/AN12 (io), 68 PF11/AN11 (io), 69 PF10/AN10 (io), 70 PF9/AN9 (io), 71 PF8/AN8 (io), 73 PF6/AN6 (io), 74 PF4/AN4 (io), 76 PF2/AN2 (io), 77 PF0/AN0 (io), 79 PB16/~{POE3} (io), 80 PB17/~{POE7} (io)
part B pins: 4 VCC (power), 10 VCL (power), 19 VCC (power), 31 VCC (power), 48 VCC (power), 50 VCL (power), 56 VCC(~{ASEMD0}) (power), 72 AVCC (power), 78 AVCC (power)
part C pins: 6 VSS (power), 17 VSS (power), 33 VSS (power), 46 VSS (power), 58 VSS(FWE) (power), 60 PLLVSS (power), 63 AVSS (power), 75 AVSS (power)

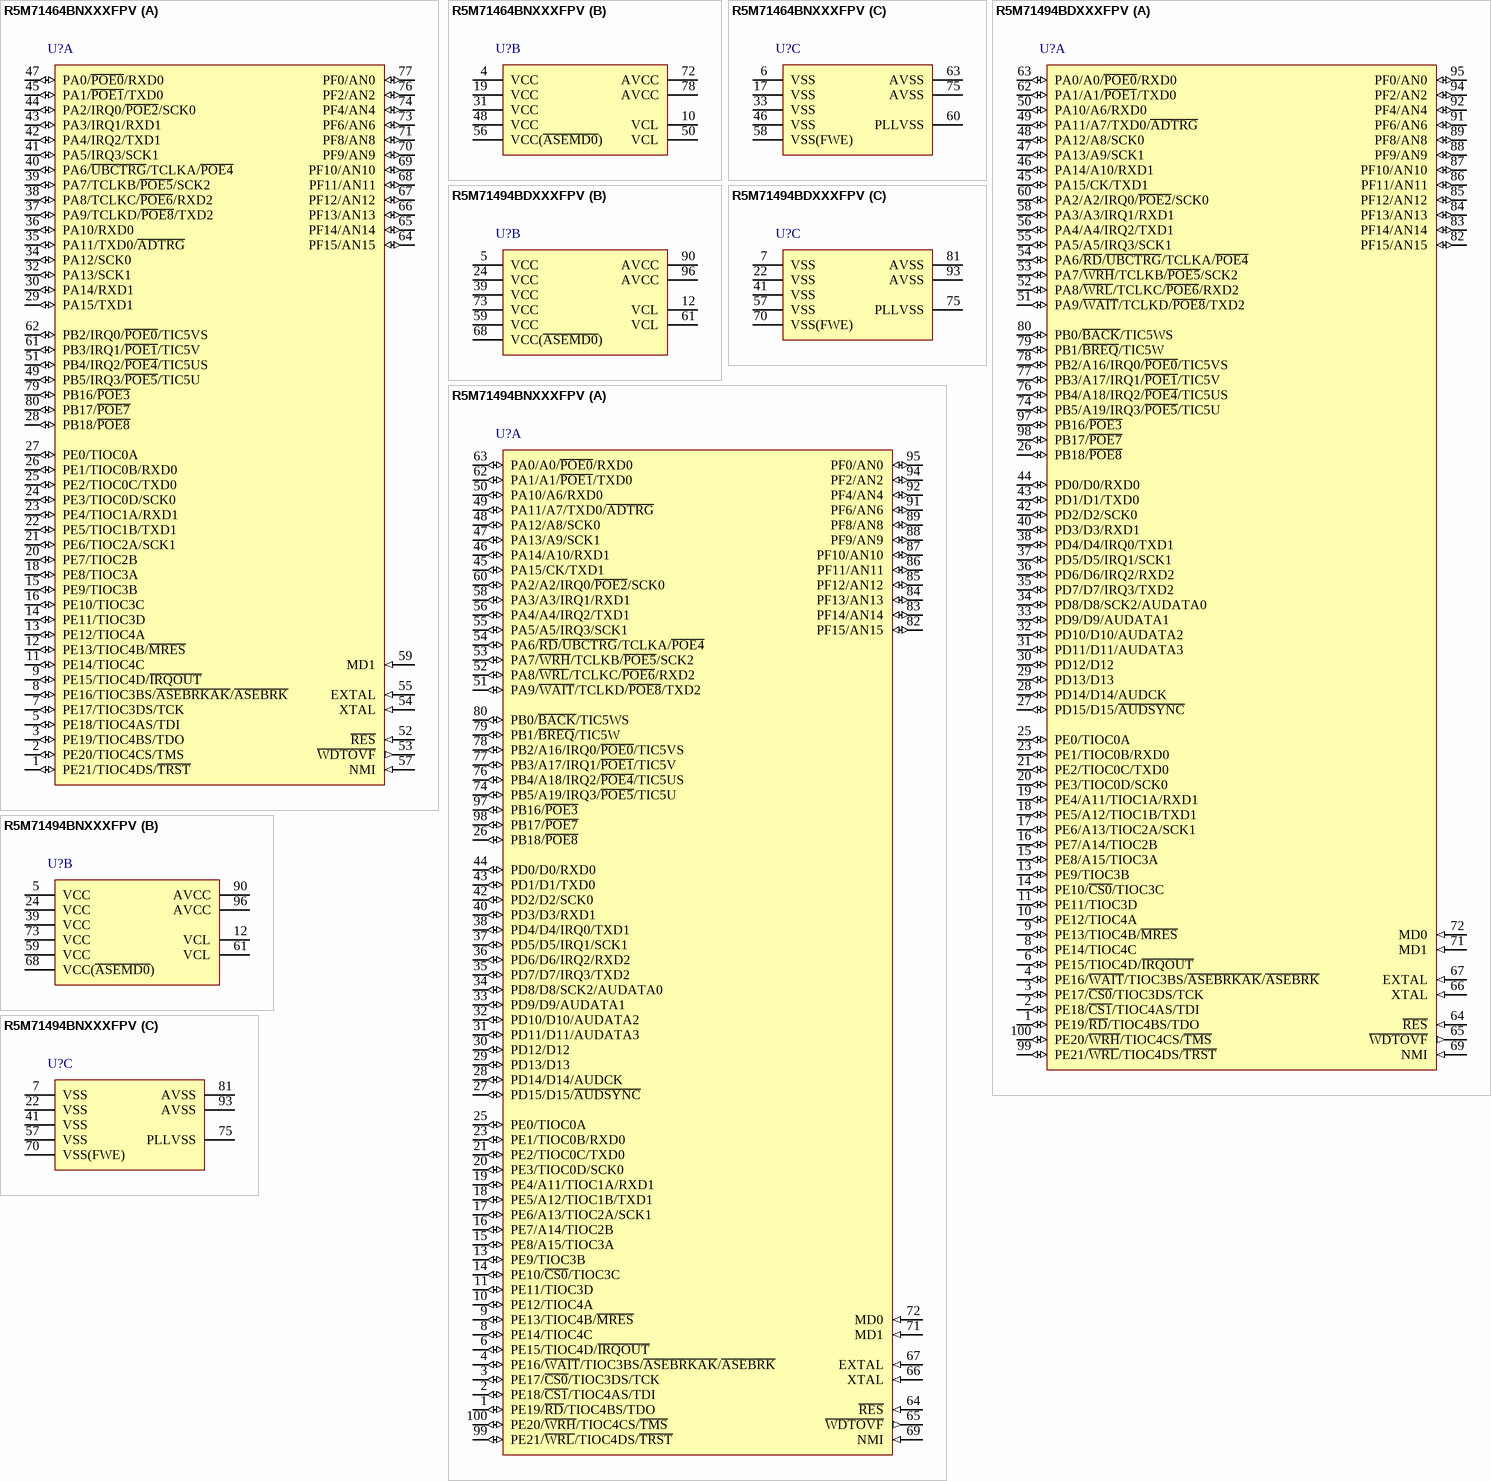
[diagram p199: symbols R5M71464BNXXXFPV to R5M71494BNXXXFPV]

## R5M71464BNXXXFPV
designator U?
32-Bit RISC Microcomputer, SH7146 Series, SH-2 core, 80MHz, 256K ROM, 8K RAM, PLQP0080JA-A (FP-80WV) Package, -20 to 85°C; Published: 28-Aug-2009; DatasheetVersion: Rev.3.00, May-2007; PackageVersion: Sep-2005; PackageReference: PLQP0080JA-A; Publisher: Altium Limited; PackageDescription: 80-Pin Plastic Low Profile QFP, 14 x 14 x 1.4 mm Body, 0.65 mm Pitch; Code_JEITA: P-LQFP80-14x14-0.65; ComponentLink1Description: Manufacturer Link; ComponentLink1URL: http://www.renesas.com/fmwk.jsp?cnt=sh7146_root.jsp&fp=/products/mpumcu/superh_family/sh7146_series/sh7146_group/; ComponentLink2Description: Datasheet; ComponentLink2URL: http://documentation.renesas.com/eng/products/mpumcu/rej09b0229_sh7146hm.pdf; ComponentLink3Description: Packaging Specification; ComponentLink3URL: http://sg.renesas.com/media/products/common_info/package/pdf/ic/code/plqp0080ja_a.pdf
footprint PLQP0080JA-A_N (QFP, 80-Leads, Body 14x14mm, Pitch 0.65mm, IPC Medium Density)
footprint PLQP0080JA-A_L (QFP, 80-Leads, Body 14x14mm, Pitch 0.65mm, IPC High Density)
footprint PLQP0080JA-A_M (QFP, 80-Leads, Body 14x14mm, Pitch 0.65mm, IPC Low Density)
part A pins: 1 PE21/TIOC4DS/~{TRST} (io), 2 PE20/TIOC4CS/TMS (io), 3 PE19/TIOC4BS/TDO (io), 5 PE18/TIOC4AS/TDI (io), 7 PE17/TIOC3DS/TCK (io), 8 PE16/TIOC3BS/~{ASEBRKAK}/~{ASEBRK} (io), 9 PE15/TIOC4D/~{IRQOUT} (io), 11 PE14/TIOC4C (io), 12 PE13/TIOC4B/~{MRES} (io), 13 PE12/TIOC4A (io), 14 PE11/TIOC3D (io), 15 PE9/TIOC3B (io), 16 PE10/TIOC3C (io), 18 PE8/TIOC3A (io), 20 PE7/TIOC2B (io), 21 PE6/TIOC2A/SCK1 (io), 22 PE5/TIOC1B/TXD1 (io), 23 PE4/TIOC1A/RXD1 (io), 24 PE3/TIOC0D/SCK0 (io), 25 PE2/TIOC0C/TXD0 (io), 26 PE1/TIOC0B/RXD0 (io), 27 PE0/TIOC0A (io), 28 PB18/~{POE8} (io), 29 PA15/TXD1 (io), 30 PA14/RXD1 (io), 32 PA13/SCK1 (io), 34 PA12/SCK0 (io), 35 PA11/TXD0/~{ADTRG} (io), 36 PA10/RXD0 (io), 37 PA9/TCLKD/~{POE8}/TXD2 (io), 38 PA8/TCLKC/~{POE6}/RXD2 (io), 39 PA7/TCLKB/~{POE5}/SCK2 (io), 40 PA6/~{UBCTRG}/TCLKA/~{POE4} (io), 41 PA5/IRQ3/SCK1 (io), 42 PA4/IRQ2/TXD1 (io), 43 PA3/IRQ1/RXD1 (io), 44 PA2/IRQ0/~{POE2}/SCK0 (io), 45 PA1/~{POE1}/TXD0 (io), 47 PA0/~{POE0}/RXD0 (io), 49 PB5/IRQ3/~{POE5}/TIC5U (io), 51 PB4/IRQ2/~{POE4}/TIC5US (io), 52 ~{RES} (in), 53 ~{WDTOVF} (out), 54 XTAL (in), 55 EXTAL (in), 57 NMI (in), 59 MD1 (in), 61 PB3/IRQ1/~{POE1}/TIC5V (io), 62 PB2/IRQ0/~{POE0}/TIC5VS (io), 64 PF15/AN15 (io), 65 PF14/AN14 (io), 66 PF13/AN13 (io), 67 PF12/AN12 (io), 68 PF11/AN11 (io), 69 PF10/AN10 (io), 70 PF9/AN9 (io), 71 PF8/AN8 (io), 73 PF6/AN6 (io), 74 PF4/AN4 (io), 76 PF2/AN2 (io), 77 PF0/AN0 (io), 79 PB16/~{POE3} (io), 80 PB17/~{POE7} (io)
part B pins: 4 VCC (power), 10 VCL (power), 19 VCC (power), 31 VCC (power), 48 VCC (power), 50 VCL (power), 56 VCC(~{ASEMD0}) (power), 72 AVCC (power), 78 AVCC (power)
part C pins: 6 VSS (power), 17 VSS (power), 33 VSS (power), 46 VSS (power), 58 VSS(FWE) (power), 60 PLLVSS (power), 63 AVSS (power), 75 AVSS (power)

## R5M71494BDXXXFPV
designator U?
32-Bit RISC Microcomputer, SH7146 Series, SH-2 core, 80MHz, 256K ROM, 8K RAM, 100-pin PLQFP, -40 to 85°C; Published: 28-Aug-2009; DatasheetVersion: Rev.3.00, May-2007; PackageVersion: Sep-2005; PackageReference: PLQP0100KB-A; Publisher: Altium Limited; PackageDescription: 100-Pin Plastic Low Profile QFP, 14 x 14 x 1.4 mm Body, 0.5 mm Pitch; Code_JEITA: P-LQFP100-14x14-0.50; Code_IPC: SQFP50P1600X1600-100; ComponentLink1Description: Manufacturer Link; ComponentLink1URL: http://www.renesas.com/fmwk.jsp?cnt=sh7146_root.jsp&fp=/products/mpumcu/superh_family/sh7146_series/sh7146_group/; ComponentLink2Description: Datasheet; ComponentLink2URL: http://documentation.renesas.com/eng/products/mpumcu/rej09b0229_sh7146hm.pdf; ComponentLink3Description: Packaging Specification; ComponentLink3URL: http://sg.renesas.com/media/products/common_info/package/pdf/ic/code/plqp0100kb_a.pdf
footprint PLQP0100KB-A_N (Shrink QFP, 100-Leads, Body 14x14mm, Pitch 0.5mm, IPC Medium Density)
footprint PLQP0100KB-A_L (Shrink QFP, 100-Leads, Body 14x14mm, Pitch 0.5mm, IPC High Density)
footprint PLQP0100KB-A_M (Shrink QFP, 100-Leads, Body 14x14mm, Pitch 0.5mm, IPC Low Density)
part A pins: 1 PE19/~{RD}/TIOC4BS/TDO (io), 2 PE18/~{CS1}/TIOC4AS/TDI (io), 3 PE17/~{CS0}/TIOC3DS/TCK (io), 4 PE16/~{WAIT}/TIOC3BS/~{ASEBRKAK}/~{ASEBRK} (io), 6 PE15/TIOC4D/~{IRQOUT} (io), 8 PE14/TIOC4C (io), 9 PE13/TIOC4B/~{MRES} (io), 10 PE12/TIOC4A (io), 11 PE11/TIOC3D (io), 13 PE9/TIOC3B (io), 14 PE10/~{CS0}/TIOC3C (io), 15 PE8/A15/TIOC3A (io), 16 PE7/A14/TIOC2B (io), 17 PE6/A13/TIOC2A/SCK1 (io), 18 PE5/A12/TIOC1B/TXD1 (io), 19 PE4/A11/TIOC1A/RXD1 (io), 20 PE3/TIOC0D/SCK0 (io), 21 PE2/TIOC0C/TXD0 (io), 23 PE1/TIOC0B/RXD0 (io), 25 PE0/TIOC0A (io), 26 PB18/~{POE8} (io), 27 PD15/D15/~{AUDSYNC} (io), 28 PD14/D14/AUDCK (io), 29 PD13/D13 (io), 30 PD12/D12 (io), 31 PD11/D11/AUDATA3 (io), 32 PD10/D10/AUDATA2 (io), 33 PD9/D9/AUDATA1 (io), 34 PD8/D8/SCK2/AUDATA0 (io), 35 PD7/D7/IRQ3/TXD2 (io), 36 PD6/D6/IRQ2/RXD2 (io), 37 PD5/D5/IRQ1/SCK1 (io), 38 PD4/D4/IRQ0/TXD1 (io), 40 PD3/D3/RXD1 (io), 42 PD2/D2/SCK0 (io), 43 PD1/D1/TXD0 (io), 44 PD0/D0/RXD0 (io), 45 PA15/CK/TXD1 (io), 46 PA14/A10/RXD1 (io), 47 PA13/A9/SCK1 (io), 48 PA12/A8/SCK0 (io), 49 PA11/A7/TXD0/~{ADTRG} (io), 50 PA10/A6/RXD0 (io), 51 PA9/~{WAIT}/TCLKD/~{POE8}/TXD2 (io), 52 PA8/~{WRL}/TCLKC/~{POE6}/RXD2 (io), 53 PA7/~{WRH}/TCLKB/~{POE5}/SCK2 (io), 54 PA6/~{RD}/~{UBCTRG}/TCLKA/~{POE4} (io), 55 PA5/A5/IRQ3/SCK1 (io), 56 PA4/A4/IRQ2/TXD1 (io), 58 PA3/A3/IRQ1/RXD1 (io), 60 PA2/A2/IRQ0/~{POE2}/SCK0 (io), 62 PA1/A1/~{POE1}/TXD0 (io), 63 PA0/A0/~{POE0}/RXD0 (io), 64 ~{RES} (in), 65 ~{WDTOVF} (out), 66 XTAL (in), 67 EXTAL (in), 69 NMI (in), 71 MD1 (in), 72 MD0 (in), 74 PB5/A19/IRQ3/~{POE5}/TIC5U (io), 76 PB4/A18/IRQ2/~{POE4}/TIC5US (io), 77 PB3/A17/IRQ1/~{POE1}/TIC5V (io), 78 PB2/A16/IRQ0/~{POE0}/TIC5VS (io), 79 PB1/~{BREQ}/TIC5W (io), 80 PB0/~{BACK}/TIC5WS (io), 82 PF15/AN15 (io), 83 PF14/AN14 (io), 84 PF13/AN13 (io), 85 PF12/AN12 (io), 86 PF11/AN11 (io), 87 PF10/AN10 (io), 88 PF9/AN9 (io), 89 PF8/AN8 (io), 91 PF6/AN6 (io), 92 PF4/AN4 (io), 94 PF2/AN2 (io), 95 PF0/AN0 (io), 97 PB16/~{POE3} (io), 98 PB17/~{POE7} (io), 99 PE21/~{WRL}/TIOC4DS/~{TRST} (io), 100 PE20/~{WRH}/TIOC4CS/~{TMS} (io)
part B pins: 5 VCC (power), 12 VCL (power), 24 VCC (power), 39 VCC (power), 59 VCC (power), 61 VCL (power), 68 VCC(~{ASEMD0}) (power), 73 VCC (power), 90 AVCC (power), 96 AVCC (power)
part C pins: 7 VSS (power), 22 VSS (power), 41 VSS (power), 57 VSS (power), 70 VSS(FWE) (power), 75 PLLVSS (power), 81 AVSS (power), 93 AVSS (power)

## R5M71494BNXXXFPV
designator U?
32-Bit RISC Microcomputer, SH7146 Series, SH-2 core, 80MHz, 256K ROM, 8K RAM, 100-pin PLQFP, -20 to 85°C; Published: 28-Aug-2009; DatasheetVersion: Rev.3.00, May-2007; PackageVersion: Sep-2005; PackageReference: PLQP0100KB-A; Publisher: Altium Limited; PackageDescription: 100-Pin Plastic Low Profile QFP, 14 x 14 x 1.4 mm Body, 0.5 mm Pitch; Code_JEITA: P-LQFP100-14x14-0.50; Code_IPC: SQFP50P1600X1600-100; ComponentLink1Description: Manufacturer Link; ComponentLink1URL: http://www.renesas.com/fmwk.jsp?cnt=sh7146_root.jsp&fp=/products/mpumcu/superh_family/sh7146_series/sh7146_group/; ComponentLink2Description: Datasheet; ComponentLink2URL: http://documentation.renesas.com/eng/products/mpumcu/rej09b0229_sh7146hm.pdf; ComponentLink3Description: Packaging Specification; ComponentLink3URL: http://sg.renesas.com/media/products/common_info/package/pdf/ic/code/plqp0100kb_a.pdf
footprint PLQP0100KB-A_N (Shrink QFP, 100-Leads, Body 14x14mm, Pitch 0.5mm, IPC Medium Density)
footprint PLQP0100KB-A_L (Shrink QFP, 100-Leads, Body 14x14mm, Pitch 0.5mm, IPC High Density)
footprint PLQP0100KB-A_M (Shrink QFP, 100-Leads, Body 14x14mm, Pitch 0.5mm, IPC Low Density)
part A pins: 1 PE19/~{RD}/TIOC4BS/TDO (io), 2 PE18/~{CS1}/TIOC4AS/TDI (io), 3 PE17/~{CS0}/TIOC3DS/TCK (io), 4 PE16/~{WAIT}/TIOC3BS/~{ASEBRKAK}/~{ASEBRK} (io), 6 PE15/TIOC4D/~{IRQOUT} (io), 8 PE14/TIOC4C (io), 9 PE13/TIOC4B/~{MRES} (io), 10 PE12/TIOC4A (io), 11 PE11/TIOC3D (io), 13 PE9/TIOC3B (io), 14 PE10/~{CS0}/TIOC3C (io), 15 PE8/A15/TIOC3A (io), 16 PE7/A14/TIOC2B (io), 17 PE6/A13/TIOC2A/SCK1 (io), 18 PE5/A12/TIOC1B/TXD1 (io), 19 PE4/A11/TIOC1A/RXD1 (io), 20 PE3/TIOC0D/SCK0 (io), 21 PE2/TIOC0C/TXD0 (io), 23 PE1/TIOC0B/RXD0 (io), 25 PE0/TIOC0A (io), 26 PB18/~{POE8} (io), 27 PD15/D15/~{AUDSYNC} (io), 28 PD14/D14/AUDCK (io), 29 PD13/D13 (io), 30 PD12/D12 (io), 31 PD11/D11/AUDATA3 (io), 32 PD10/D10/AUDATA2 (io), 33 PD9/D9/AUDATA1 (io), 34 PD8/D8/SCK2/AUDATA0 (io), 35 PD7/D7/IRQ3/TXD2 (io), 36 PD6/D6/IRQ2/RXD2 (io), 37 PD5/D5/IRQ1/SCK1 (io), 38 PD4/D4/IRQ0/TXD1 (io), 40 PD3/D3/RXD1 (io), 42 PD2/D2/SCK0 (io), 43 PD1/D1/TXD0 (io), 44 PD0/D0/RXD0 (io), 45 PA15/CK/TXD1 (io), 46 PA14/A10/RXD1 (io), 47 PA13/A9/SCK1 (io), 48 PA12/A8/SCK0 (io), 49 PA11/A7/TXD0/~{ADTRG} (io), 50 PA10/A6/RXD0 (io), 51 PA9/~{WAIT}/TCLKD/~{POE8}/TXD2 (io), 52 PA8/~{WRL}/TCLKC/~{POE6}/RXD2 (io), 53 PA7/~{WRH}/TCLKB/~{POE5}/SCK2 (io), 54 PA6/~{RD}/~{UBCTRG}/TCLKA/~{POE4} (io), 55 PA5/A5/IRQ3/SCK1 (io), 56 PA4/A4/IRQ2/TXD1 (io), 58 PA3/A3/IRQ1/RXD1 (io), 60 PA2/A2/IRQ0/~{POE2}/SCK0 (io), 62 PA1/A1/~{POE1}/TXD0 (io), 63 PA0/A0/~{POE0}/RXD0 (io), 64 ~{RES} (in), 65 ~{WDTOVF} (out), 66 XTAL (in), 67 EXTAL (in), 69 NMI (in), 71 MD1 (in), 72 MD0 (in), 74 PB5/A19/IRQ3/~{POE5}/TIC5U (io), 76 PB4/A18/IRQ2/~{POE4}/TIC5US (io), 77 PB3/A17/IRQ1/~{POE1}/TIC5V (io), 78 PB2/A16/IRQ0/~{POE0}/TIC5VS (io), 79 PB1/~{BREQ}/TIC5W (io), 80 PB0/~{BACK}/TIC5WS (io), 82 PF15/AN15 (io), 83 PF14/AN14 (io), 84 PF13/AN13 (io), 85 PF12/AN12 (io), 86 PF11/AN11 (io), 87 PF10/AN10 (io), 88 PF9/AN9 (io), 89 PF8/AN8 (io), 91 PF6/AN6 (io), 92 PF4/AN4 (io), 94 PF2/AN2 (io), 95 PF0/AN0 (io), 97 PB16/~{POE3} (io), 98 PB17/~{POE7} (io), 99 PE21/~{WRL}/TIOC4DS/~{TRST} (io), 100 PE20/~{WRH}/TIOC4CS/~{TMS} (io)
part B pins: 5 VCC (power), 12 VCL (power), 24 VCC (power), 39 VCC (power), 59 VCC (power), 61 VCL (power), 68 VCC(~{ASEMD0}) (power), 73 VCC (power), 90 AVCC (power), 96 AVCC (power)
part C pins: 7 VSS (power), 22 VSS (power), 41 VSS (power), 57 VSS (power), 70 VSS(FWE) (power), 75 PLLVSS (power), 81 AVSS (power), 93 AVSS (power)

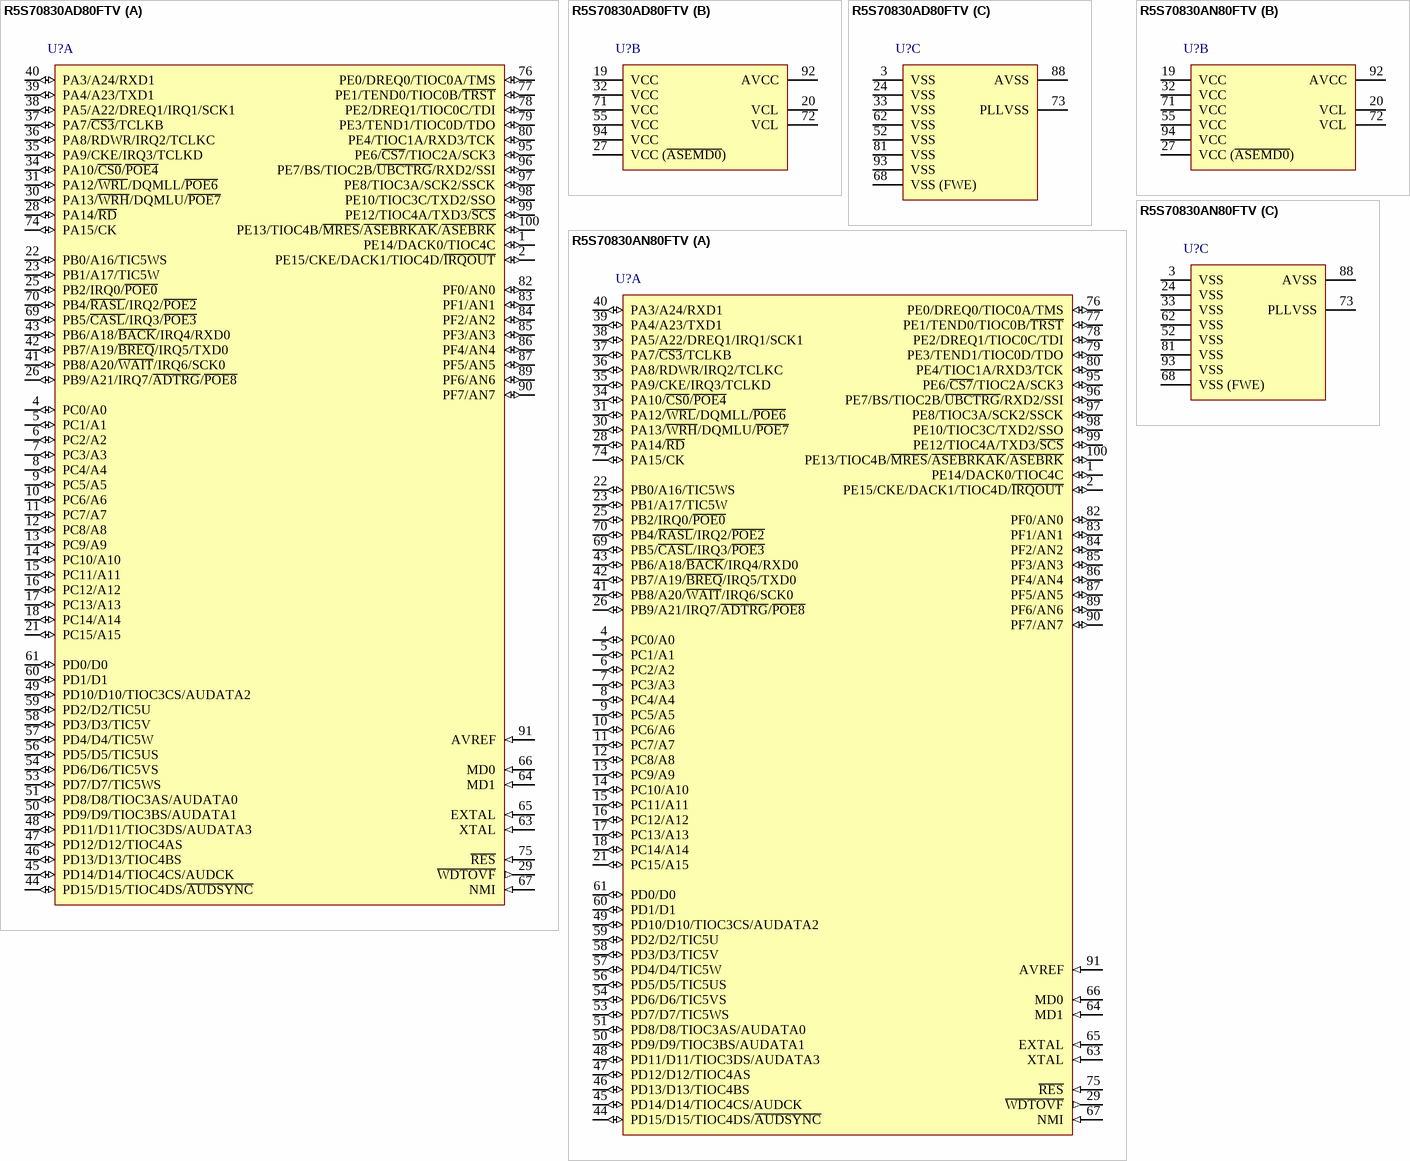
[diagram p200: symbols R5S70830AD80FTV to R5S70830AN80FTV]

## R5S70830AD80FTV
designator U?
32-Bit RISC Microcomputer, SH7080 Series, SH-2 core, 80MHz, 16K RAM, PTQP0100KA-A (TFP-100BV) Package, -40 to 85°C; Published: 28-Aug-2009; LatestRevisionDate: 15-Feb-2010; LatestRevisionNote: Updated to datasheet revision 4.00 Dec-2009.; DatasheetVersion: Rev.4.00, Dec-2009; PackageVersion: Sep-2005; PackageReference: PTQP0100KA-A; Publisher: Altium Limited; PackageDescription: 100-Pin Plastic Thin Quad Flat Pack, 14 x 14 x 1.0 mm Body, 0.5 mm Pitch; Code_JEITA: P-TQFP100-14x14-0.50; ComponentLink1Description: Manufacturer Link; ComponentLink1URL: http://www.renesas.com/fmwk.jsp?cnt=sh7080_root.jsp&fp=/products/mpumcu/superh_family/sh7080_series/sh7080_group/; ComponentLink2Description: Datasheet; ComponentLink2URL: http://documentation.renesas.com/eng/products/mpumcu/rej09b0181_sh7080.pdf; ComponentLink3Description: Packaging Specification; ComponentLink3URL: http://sg.renesas.com/media/products/common_info/package/pdf/ic/code/ptqp0100ka_a.pdf
footprint PTQP0100KA-A_N (Thin QFP, 100-Leads, Body 14x14mm, Pitch 0.5mm, IPC Medium Density)
footprint PTQP0100KA-A_L (Thin QFP, 100-Leads, Body 14x14mm, Pitch 0.5mm, IPC High Density)
footprint PTQP0100KA-A_M (Thin QFP, 100-Leads, Body 14x14mm, Pitch 0.5mm, IPC Low Density)
part A pins: 1 PE14/DACK0/TIOC4C (io), 2 PE15/CKE/DACK1/TIOC4D/~{IRQOUT} (io), 4 PC0/A0 (io), 5 PC1/A1 (io), 6 PC2/A2 (io), 7 PC3/A3 (io), 8 PC4/A4 (io), 9 PC5/A5 (io), 10 PC6/A6 (io), 11 PC7/A7 (io), 12 PC8/A8 (io), 13 PC9/A9 (io), 14 PC10/A10 (io), 15 PC11/A11 (io), 16 PC12/A12 (io), 17 PC13/A13 (io), 18 PC14/A14 (io), 21 PC15/A15 (io), 22 PB0/A16/TIC5WS (io), 23 PB1/A17/TIC5W (io), 25 PB2/IRQ0/~{POE0} (io), 26 PB9/A21/IRQ7/~{ADTRG}/~{POE8} (io), 28 PA14/~{RD} (io), 29 ~{WDTOVF} (out), 30 PA13/~{WRH}/DQMLU/~{POE7} (io), 31 PA12/~{WRL}/DQMLL/~{POE6} (io), 34 PA10/~{CS0}/~{POE4} (io), 35 PA9/CKE/IRQ3/TCLKD (io), 36 PA8/RDWR/IRQ2/TCLKC (io), 37 PA7/~{CS3}/TCLKB (io), 38 PA5/A22/DREQ1/IRQ1/SCK1 (io), 39 PA4/A23/TXD1 (io), 40 PA3/A24/RXD1 (io), 41 PB8/A20/~{WAIT}/IRQ6/SCK0 (io), 42 PB7/A19/~{BREQ}/IRQ5/TXD0 (io), 43 PB6/A18/~{BACK}/IRQ4/RXD0 (io), 44 PD15/D15/TIOC4DS/~{AUDSYNC} (io), 45 PD14/D14/TIOC4CS/AUDCK (io), 46 PD13/D13/TIOC4BS (io), 47 PD12/D12/TIOC4AS (io), 48 PD11/D11/TIOC3DS/AUDATA3 (io), 49 PD10/D10/TIOC3CS/AUDATA2 (io), 50 PD9/D9/TIOC3BS/AUDATA1 (io), 51 PD8/D8/TIOC3AS/AUDATA0 (io), 53 PD7/D7/TIC5WS (io), 54 PD6/D6/TIC5VS (io), 56 PD5/D5/TIC5US (io), 57 PD4/D4/TIC5W (io), 58 PD3/D3/TIC5V (io), 59 PD2/D2/TIC5U (io), 60 PD1/D1 (io), 61 PD0/D0 (io), 63 XTAL (in), 64 MD1 (in), 65 EXTAL (in), 66 MD0 (in), 67 NMI (in), 69 PB5/~{CASL}/IRQ3/~{POE3} (io), 70 PB4/~{RASL}/IRQ2/~{POE2} (io), 74 PA15/CK (io), 75 ~{RES} (in), 76 PE0/DREQ0/TIOC0A/TMS (io), 77 PE1/TEND0/TIOC0B/~{TRST} (io), 78 PE2/DREQ1/TIOC0C/TDI (io), 79 PE3/TEND1/TIOC0D/TDO (io), 80 PE4/TIOC1A/RXD3/TCK (io), 82 PF0/AN0 (io), 83 PF1/AN1 (io), 84 PF2/AN2 (io), 85 PF3/AN3 (io), 86 PF4/AN4 (io), 87 PF5/AN5 (io), 89 PF6/AN6 (io), 90 PF7/AN7 (io), 91 AVREF (in), 95 PE6/~{CS7}/TIOC2A/SCK3 (io), 96 PE7/BS/TIOC2B/~{UBCTRG}/RXD2/SSI (io), 97 PE8/TIOC3A/SCK2/SSCK (io), 98 PE10/TIOC3C/TXD2/SSO (io), 99 PE12/TIOC4A/TXD3/~{SCS} (io), 100 PE13/TIOC4B/~{MRES}/~{ASEBRKAK}/~{ASEBRK} (io)
part B pins: 19 VCC (power), 20 VCL (power), 27 VCC (~{ASEMD0}) (power), 32 VCC (power), 55 VCC (power), 71 VCC (power), 72 VCL (power), 92 AVCC (power), 94 VCC (power)
part C pins: 3 VSS (power), 24 VSS (power), 33 VSS (power), 52 VSS (power), 62 VSS (power), 68 VSS (FWE) (power), 73 PLLVSS (power), 81 VSS (power), 88 AVSS (power), 93 VSS (power)

## R5S70830AN80FTV
designator U?
32-Bit RISC Microcomputer, SH7080 Series, SH-2 core, 80MHz, 16K RAM, PTQP0100KA-A (TFP-100BV) Package, -20 to 85°C; Published: 28-Aug-2009; LatestRevisionDate: 15-Feb-2010; LatestRevisionNote: Updated to datasheet revision 4.00 Dec-2009.; DatasheetVersion: Rev.4.00, Dec-2009; PackageVersion: Sep-2005; PackageReference: PTQP0100KA-A; Publisher: Altium Limited; PackageDescription: 100-Pin Plastic Thin Quad Flat Pack, 14 x 14 x 1.0 mm Body, 0.5 mm Pitch; Code_JEITA: P-TQFP100-14x14-0.50; ComponentLink1Description: Manufacturer Link; ComponentLink1URL: http://www.renesas.com/fmwk.jsp?cnt=sh7080_root.jsp&fp=/products/mpumcu/superh_family/sh7080_series/sh7080_group/; ComponentLink2Description: Datasheet; ComponentLink2URL: http://documentation.renesas.com/eng/products/mpumcu/rej09b0181_sh7080.pdf; ComponentLink3Description: Packaging Specification; ComponentLink3URL: http://sg.renesas.com/media/products/common_info/package/pdf/ic/code/ptqp0100ka_a.pdf
footprint PTQP0100KA-A_N (Thin QFP, 100-Leads, Body 14x14mm, Pitch 0.5mm, IPC Medium Density)
footprint PTQP0100KA-A_L (Thin QFP, 100-Leads, Body 14x14mm, Pitch 0.5mm, IPC High Density)
footprint PTQP0100KA-A_M (Thin QFP, 100-Leads, Body 14x14mm, Pitch 0.5mm, IPC Low Density)
part A pins: 1 PE14/DACK0/TIOC4C (io), 2 PE15/CKE/DACK1/TIOC4D/~{IRQOUT} (io), 4 PC0/A0 (io), 5 PC1/A1 (io), 6 PC2/A2 (io), 7 PC3/A3 (io), 8 PC4/A4 (io), 9 PC5/A5 (io), 10 PC6/A6 (io), 11 PC7/A7 (io), 12 PC8/A8 (io), 13 PC9/A9 (io), 14 PC10/A10 (io), 15 PC11/A11 (io), 16 PC12/A12 (io), 17 PC13/A13 (io), 18 PC14/A14 (io), 21 PC15/A15 (io), 22 PB0/A16/TIC5WS (io), 23 PB1/A17/TIC5W (io), 25 PB2/IRQ0/~{POE0} (io), 26 PB9/A21/IRQ7/~{ADTRG}/~{POE8} (io), 28 PA14/~{RD} (io), 29 ~{WDTOVF} (out), 30 PA13/~{WRH}/DQMLU/~{POE7} (io), 31 PA12/~{WRL}/DQMLL/~{POE6} (io), 34 PA10/~{CS0}/~{POE4} (io), 35 PA9/CKE/IRQ3/TCLKD (io), 36 PA8/RDWR/IRQ2/TCLKC (io), 37 PA7/~{CS3}/TCLKB (io), 38 PA5/A22/DREQ1/IRQ1/SCK1 (io), 39 PA4/A23/TXD1 (io), 40 PA3/A24/RXD1 (io), 41 PB8/A20/~{WAIT}/IRQ6/SCK0 (io), 42 PB7/A19/~{BREQ}/IRQ5/TXD0 (io), 43 PB6/A18/~{BACK}/IRQ4/RXD0 (io), 44 PD15/D15/TIOC4DS/~{AUDSYNC} (io), 45 PD14/D14/TIOC4CS/AUDCK (io), 46 PD13/D13/TIOC4BS (io), 47 PD12/D12/TIOC4AS (io), 48 PD11/D11/TIOC3DS/AUDATA3 (io), 49 PD10/D10/TIOC3CS/AUDATA2 (io), 50 PD9/D9/TIOC3BS/AUDATA1 (io), 51 PD8/D8/TIOC3AS/AUDATA0 (io), 53 PD7/D7/TIC5WS (io), 54 PD6/D6/TIC5VS (io), 56 PD5/D5/TIC5US (io), 57 PD4/D4/TIC5W (io), 58 PD3/D3/TIC5V (io), 59 PD2/D2/TIC5U (io), 60 PD1/D1 (io), 61 PD0/D0 (io), 63 XTAL (in), 64 MD1 (in), 65 EXTAL (in), 66 MD0 (in), 67 NMI (in), 69 PB5/~{CASL}/IRQ3/~{POE3} (io), 70 PB4/~{RASL}/IRQ2/~{POE2} (io), 74 PA15/CK (io), 75 ~{RES} (in), 76 PE0/DREQ0/TIOC0A/TMS (io), 77 PE1/TEND0/TIOC0B/~{TRST} (io), 78 PE2/DREQ1/TIOC0C/TDI (io), 79 PE3/TEND1/TIOC0D/TDO (io), 80 PE4/TIOC1A/RXD3/TCK (io), 82 PF0/AN0 (io), 83 PF1/AN1 (io), 84 PF2/AN2 (io), 85 PF3/AN3 (io), 86 PF4/AN4 (io), 87 PF5/AN5 (io), 89 PF6/AN6 (io), 90 PF7/AN7 (io), 91 AVREF (in), 95 PE6/~{CS7}/TIOC2A/SCK3 (io), 96 PE7/BS/TIOC2B/~{UBCTRG}/RXD2/SSI (io), 97 PE8/TIOC3A/SCK2/SSCK (io), 98 PE10/TIOC3C/TXD2/SSO (io), 99 PE12/TIOC4A/TXD3/~{SCS} (io), 100 PE13/TIOC4B/~{MRES}/~{ASEBRKAK}/~{ASEBRK} (io)
part B pins: 19 VCC (power), 20 VCL (power), 27 VCC (~{ASEMD0}) (power), 32 VCC (power), 55 VCC (power), 71 VCC (power), 72 VCL (power), 92 AVCC (power), 94 VCC (power)
part C pins: 3 VSS (power), 24 VSS (power), 33 VSS (power), 52 VSS (power), 62 VSS (power), 68 VSS (FWE) (power), 73 PLLVSS (power), 81 VSS (power), 88 AVSS (power), 93 VSS (power)

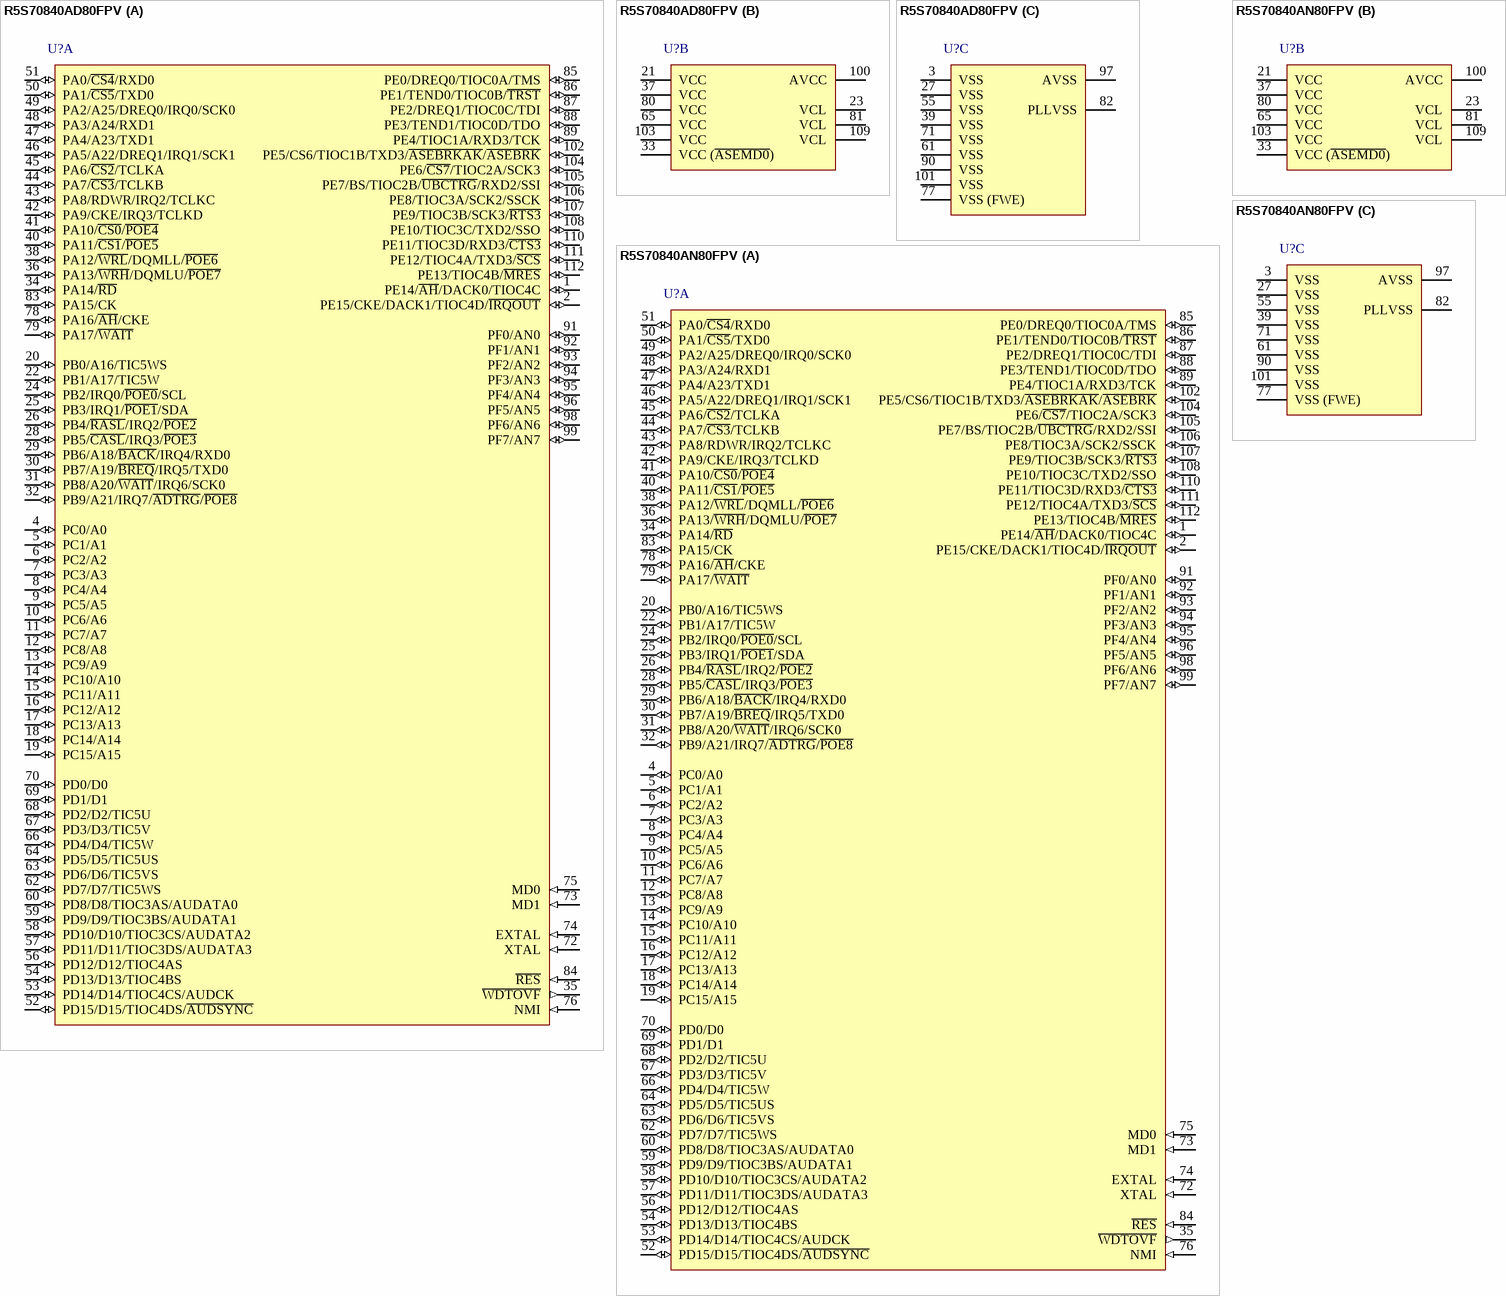
[diagram p201: symbols R5S70840AD80FPV to R5S70840AN80FPV]

## R5S70840AD80FPV
designator U?
32-Bit RISC Microcomputer, SH7080 Series, SH-2 core, 80MHz, 16K RAM, PLQP0112JA-A (FP-112EV) Package, -40 to 85°C; Published: 28-Aug-2009; LatestRevisionDate: 15-Feb-2010; LatestRevisionNote: Updated to datasheet revision 4.00 Dec-2009.; DatasheetVersion: Rev.4.00, Dec-2009; PackageVersion: Sep-2005; PackageReference: PLQP0112JA-A; Publisher: Altium Limited; PackageDescription: 112-Pin Plastic Low Profile QFP, 20 x 20 x 1.4 mm Body, 0.65 mm Pitch; Code_JEITA: P-LQFP112-20x20-0.65; ComponentLink1Description: Manufacturer Link; ComponentLink1URL: http://www.renesas.com/fmwk.jsp?cnt=sh7080_root.jsp&fp=/products/mpumcu/superh_family/sh7080_series/sh7080_group/; ComponentLink2Description: Datasheet; ComponentLink2URL: http://documentation.renesas.com/eng/products/mpumcu/rej09b0181_sh7080.pdf; ComponentLink3Description: Packaging Specification; ComponentLink3URL: http://sg.renesas.com/media/products/common_info/package/pdf/ic/code/plqp0112ja_a.pdf
footprint PLQP0112JA-A_N (QFP, 112-Leads, Body 20x20mm, Pitch 0.65mm, IPC Medium Density)
footprint PLQP0112JA-A_L (QFP, 112-Leads, Body 20x20mm, Pitch 0.65mm, IPC High Density)
footprint PLQP0112JA-A_M (QFP, 112-Leads, Body 20x20mm, Pitch 0.65mm, IPC Low Density)
part A pins: 1 PE14/~{AH}/DACK0/TIOC4C (io), 2 PE15/CKE/DACK1/TIOC4D/~{IRQOUT} (io), 4 PC0/A0 (io), 5 PC1/A1 (io), 6 PC2/A2 (io), 7 PC3/A3 (io), 8 PC4/A4 (io), 9 PC5/A5 (io), 10 PC6/A6 (io), 11 PC7/A7 (io), 12 PC8/A8 (io), 13 PC9/A9 (io), 14 PC10/A10 (io), 15 PC11/A11 (io), 16 PC12/A12 (io), 17 PC13/A13 (io), 18 PC14/A14 (io), 19 PC15/A15 (io), 20 PB0/A16/TIC5WS (io), 22 PB1/A17/TIC5W (io), 24 PB2/IRQ0/~{POE0}/SCL (io), 25 PB3/IRQ1/~{POE1}/SDA (io), 26 PB4/~{RASL}/IRQ2/~{POE2} (io), 28 PB5/~{CASL}/IRQ3/~{POE3} (io), 29 PB6/A18/~{BACK}/IRQ4/RXD0 (io), 30 PB7/A19/~{BREQ}/IRQ5/TXD0 (io), 31 PB8/A20/~{WAIT}/IRQ6/SCK0 (io), 32 PB9/A21/IRQ7/~{ADTRG}/~{POE8} (io), 34 PA14/~{RD} (io), 35 ~{WDTOVF} (out), 36 PA13/~{WRH}/DQMLU/~{POE7} (io), 38 PA12/~{WRL}/DQMLL/~{POE6} (io), 40 PA11/~{CS1}/~{POE5} (io), 41 PA10/~{CS0}/~{POE4} (io), 42 PA9/CKE/IRQ3/TCLKD (io), 43 PA8/RDWR/IRQ2/TCLKC (io), 44 PA7/~{CS3}/TCLKB (io), 45 PA6/~{CS2}/TCLKA (io), 46 PA5/A22/DREQ1/IRQ1/SCK1 (io), 47 PA4/A23/TXD1 (io), 48 PA3/A24/RXD1 (io), 49 PA2/A25/DREQ0/IRQ0/SCK0 (io), 50 PA1/~{CS5}/TXD0 (io), 51 PA0/~{CS4}/RXD0 (io), 52 PD15/D15/TIOC4DS/~{AUDSYNC} (io), 53 PD14/D14/TIOC4CS/AUDCK (io), 54 PD13/D13/TIOC4BS (io), 56 PD12/D12/TIOC4AS (io), 57 PD11/D11/TIOC3DS/AUDATA3 (io), 58 PD10/D10/TIOC3CS/AUDATA2 (io), 59 PD9/D9/TIOC3BS/AUDATA1 (io), 60 PD8/D8/TIOC3AS/AUDATA0 (io), 62 PD7/D7/TIC5WS (io), 63 PD6/D6/TIC5VS (io), 64 PD5/D5/TIC5US (io), 66 PD4/D4/TIC5W (io), 67 PD3/D3/TIC5V (io), 68 PD2/D2/TIC5U (io), 69 PD1/D1 (io), 70 PD0/D0 (io), 72 XTAL (in), 73 MD1 (in), 74 EXTAL (in), 75 MD0 (in), 76 NMI (in), 78 PA16/~{AH}/CKE (io), 79 PA17/~{WAIT} (io), 83 PA15/CK (io), 84 ~{RES} (in), 85 PE0/DREQ0/TIOC0A/TMS (io), 86 PE1/TEND0/TIOC0B/~{TRST} (io), 87 PE2/DREQ1/TIOC0C/TDI (io), 88 PE3/TEND1/TIOC0D/TDO (io), 89 PE4/TIOC1A/RXD3/TCK (io), 91 PF0/AN0 (io), 92 PF1/AN1 (io), 93 PF2/AN2 (io), 94 PF3/AN3 (io), 95 PF4/AN4 (io), 96 PF5/AN5 (io), 98 PF6/AN6 (io), 99 PF7/AN7 (io), 102 PE5/CS6/TIOC1B/TXD3/~{ASEBRKAK}/~{ASEBRK} (io), 104 PE6/~{CS7}/TIOC2A/SCK3 (io), 105 PE7/BS/TIOC2B/~{UBCTRG}/RXD2/SSI (io), 106 PE8/TIOC3A/SCK2/SSCK (io), 107 PE9/TIOC3B/SCK3/~{RTS3} (io), 108 PE10/TIOC3C/TXD2/SSO (io), 110 PE11/TIOC3D/RXD3/~{CTS3} (io), 111 PE12/TIOC4A/TXD3/~{SCS} (io), 112 PE13/TIOC4B/~{MRES} (io)
part B pins: 21 VCC (power), 23 VCL (power), 33 VCC (~{ASEMD0}) (power), 37 VCC (power), 65 VCC (power), 80 VCC (power), 81 VCL (power), 100 AVCC (power), 103 VCC (power), 109 VCL (power)
part C pins: 3 VSS (power), 27 VSS (power), 39 VSS (power), 55 VSS (power), 61 VSS (power), 71 VSS (power), 77 VSS (FWE) (power), 82 PLLVSS (power), 90 VSS (power), 97 AVSS (power), 101 VSS (power)

## R5S70840AN80FPV
designator U?
32-Bit RISC Microcomputer, SH7080 Series, SH-2 core, 80MHz, 16K RAM, PLQP0112JA-A (FP-112EV) Package, -20 to 85°C; Published: 28-Aug-2009; LatestRevisionDate: 15-Feb-2010; LatestRevisionNote: Updated to datasheet revision 4.00 Dec-2009.; DatasheetVersion: Rev.4.00, Dec-2009; PackageVersion: Sep-2005; PackageReference: PLQP0112JA-A; Publisher: Altium Limited; PackageDescription: 112-Pin Plastic Low Profile QFP, 20 x 20 x 1.4 mm Body, 0.65 mm Pitch; Code_JEITA: P-LQFP112-20x20-0.65; ComponentLink1Description: Manufacturer Link; ComponentLink1URL: http://www.renesas.com/fmwk.jsp?cnt=sh7080_root.jsp&fp=/products/mpumcu/superh_family/sh7080_series/sh7080_group/; ComponentLink2Description: Datasheet; ComponentLink2URL: http://documentation.renesas.com/eng/products/mpumcu/rej09b0181_sh7080.pdf; ComponentLink3Description: Packaging Specification; ComponentLink3URL: http://sg.renesas.com/media/products/common_info/package/pdf/ic/code/plqp0112ja_a.pdf
footprint PLQP0112JA-A_N (QFP, 112-Leads, Body 20x20mm, Pitch 0.65mm, IPC Medium Density)
footprint PLQP0112JA-A_L (QFP, 112-Leads, Body 20x20mm, Pitch 0.65mm, IPC High Density)
footprint PLQP0112JA-A_M (QFP, 112-Leads, Body 20x20mm, Pitch 0.65mm, IPC Low Density)
part A pins: 1 PE14/~{AH}/DACK0/TIOC4C (io), 2 PE15/CKE/DACK1/TIOC4D/~{IRQOUT} (io), 4 PC0/A0 (io), 5 PC1/A1 (io), 6 PC2/A2 (io), 7 PC3/A3 (io), 8 PC4/A4 (io), 9 PC5/A5 (io), 10 PC6/A6 (io), 11 PC7/A7 (io), 12 PC8/A8 (io), 13 PC9/A9 (io), 14 PC10/A10 (io), 15 PC11/A11 (io), 16 PC12/A12 (io), 17 PC13/A13 (io), 18 PC14/A14 (io), 19 PC15/A15 (io), 20 PB0/A16/TIC5WS (io), 22 PB1/A17/TIC5W (io), 24 PB2/IRQ0/~{POE0}/SCL (io), 25 PB3/IRQ1/~{POE1}/SDA (io), 26 PB4/~{RASL}/IRQ2/~{POE2} (io), 28 PB5/~{CASL}/IRQ3/~{POE3} (io), 29 PB6/A18/~{BACK}/IRQ4/RXD0 (io), 30 PB7/A19/~{BREQ}/IRQ5/TXD0 (io), 31 PB8/A20/~{WAIT}/IRQ6/SCK0 (io), 32 PB9/A21/IRQ7/~{ADTRG}/~{POE8} (io), 34 PA14/~{RD} (io), 35 ~{WDTOVF} (out), 36 PA13/~{WRH}/DQMLU/~{POE7} (io), 38 PA12/~{WRL}/DQMLL/~{POE6} (io), 40 PA11/~{CS1}/~{POE5} (io), 41 PA10/~{CS0}/~{POE4} (io), 42 PA9/CKE/IRQ3/TCLKD (io), 43 PA8/RDWR/IRQ2/TCLKC (io), 44 PA7/~{CS3}/TCLKB (io), 45 PA6/~{CS2}/TCLKA (io), 46 PA5/A22/DREQ1/IRQ1/SCK1 (io), 47 PA4/A23/TXD1 (io), 48 PA3/A24/RXD1 (io), 49 PA2/A25/DREQ0/IRQ0/SCK0 (io), 50 PA1/~{CS5}/TXD0 (io), 51 PA0/~{CS4}/RXD0 (io), 52 PD15/D15/TIOC4DS/~{AUDSYNC} (io), 53 PD14/D14/TIOC4CS/AUDCK (io), 54 PD13/D13/TIOC4BS (io), 56 PD12/D12/TIOC4AS (io), 57 PD11/D11/TIOC3DS/AUDATA3 (io), 58 PD10/D10/TIOC3CS/AUDATA2 (io), 59 PD9/D9/TIOC3BS/AUDATA1 (io), 60 PD8/D8/TIOC3AS/AUDATA0 (io), 62 PD7/D7/TIC5WS (io), 63 PD6/D6/TIC5VS (io), 64 PD5/D5/TIC5US (io), 66 PD4/D4/TIC5W (io), 67 PD3/D3/TIC5V (io), 68 PD2/D2/TIC5U (io), 69 PD1/D1 (io), 70 PD0/D0 (io), 72 XTAL (in), 73 MD1 (in), 74 EXTAL (in), 75 MD0 (in), 76 NMI (in), 78 PA16/~{AH}/CKE (io), 79 PA17/~{WAIT} (io), 83 PA15/CK (io), 84 ~{RES} (in), 85 PE0/DREQ0/TIOC0A/TMS (io), 86 PE1/TEND0/TIOC0B/~{TRST} (io), 87 PE2/DREQ1/TIOC0C/TDI (io), 88 PE3/TEND1/TIOC0D/TDO (io), 89 PE4/TIOC1A/RXD3/TCK (io), 91 PF0/AN0 (io), 92 PF1/AN1 (io), 93 PF2/AN2 (io), 94 PF3/AN3 (io), 95 PF4/AN4 (io), 96 PF5/AN5 (io), 98 PF6/AN6 (io), 99 PF7/AN7 (io), 102 PE5/CS6/TIOC1B/TXD3/~{ASEBRKAK}/~{ASEBRK} (io), 104 PE6/~{CS7}/TIOC2A/SCK3 (io), 105 PE7/BS/TIOC2B/~{UBCTRG}/RXD2/SSI (io), 106 PE8/TIOC3A/SCK2/SSCK (io), 107 PE9/TIOC3B/SCK3/~{RTS3} (io), 108 PE10/TIOC3C/TXD2/SSO (io), 110 PE11/TIOC3D/RXD3/~{CTS3} (io), 111 PE12/TIOC4A/TXD3/~{SCS} (io), 112 PE13/TIOC4B/~{MRES} (io)
part B pins: 21 VCC (power), 23 VCL (power), 33 VCC (~{ASEMD0}) (power), 37 VCC (power), 65 VCC (power), 80 VCC (power), 81 VCL (power), 100 AVCC (power), 103 VCC (power), 109 VCL (power)
part C pins: 3 VSS (power), 27 VSS (power), 39 VSS (power), 55 VSS (power), 61 VSS (power), 71 VSS (power), 77 VSS (FWE) (power), 82 PLLVSS (power), 90 VSS (power), 97 AVSS (power), 101 VSS (power)

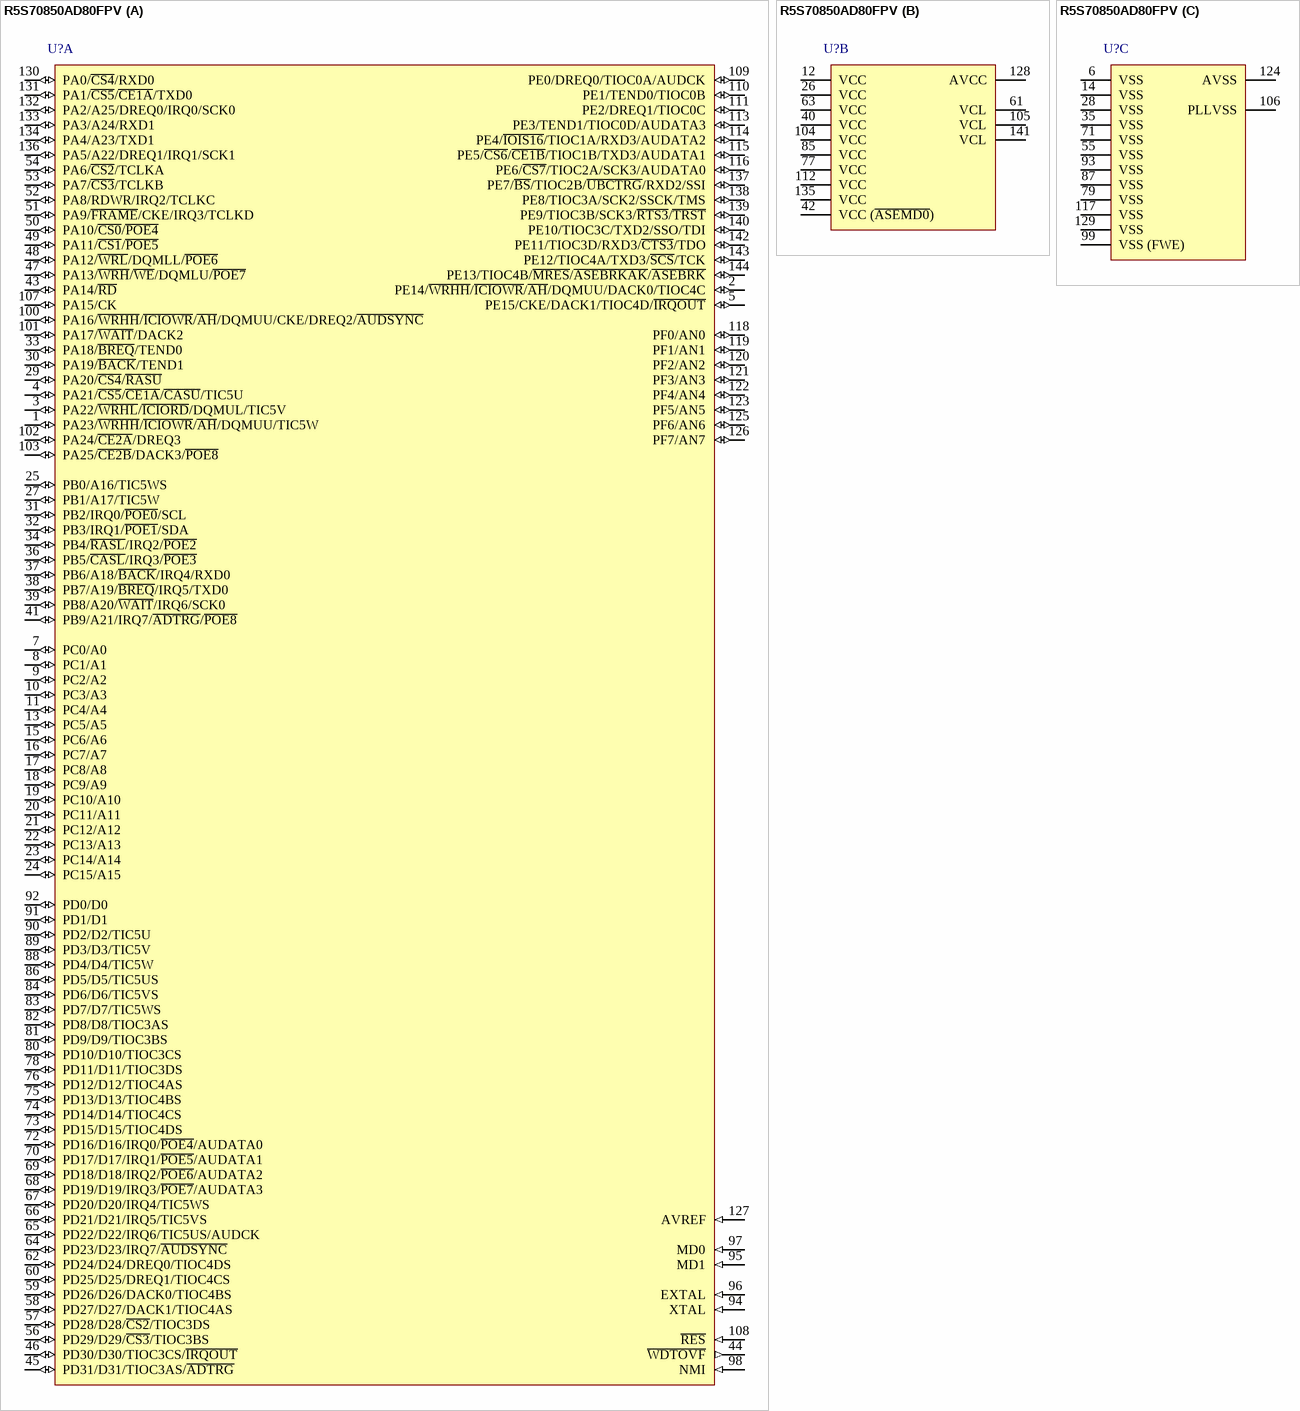
[diagram p202: symbol R5S70850AD80FPV]